# Altium schematic symbol library MS IMP Library.SchLib: 375 symbols (part 5 of 9)
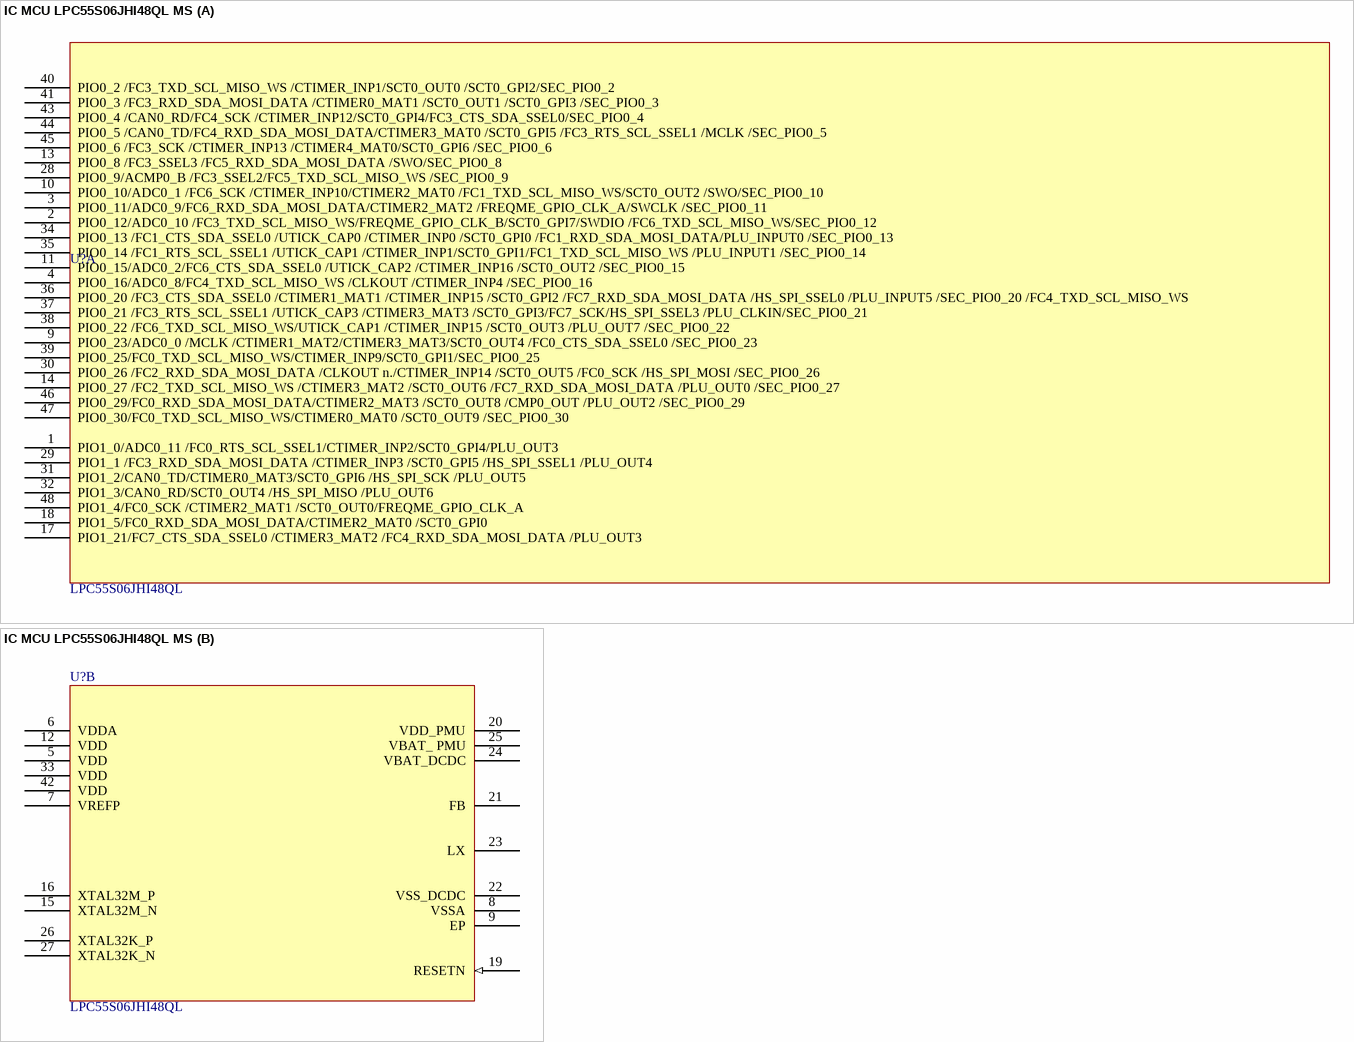
[diagram p26: symbol IC MCU LPC55S06JHI48QL MS]

## IC MCU LPC55S06JHI48QL MS
designator U?, comment LPC55S06JHI48QL
IC MCU 32BIT 256KB FLASH 48HVQFN; Manufacturer: NXP Semiconductors; Supply Voltage: 1.8V ~ 3.6V; Data RAM: 96kB; Production Status: Active; Distributor: Mouser; Distributor Part Number: 771-LPC55S06JHI48QL; Manufacturer Part Number: LPC55S06JHI48QL; Last Revision Date: 28.07.2021; Temperature Range: -40°C ~ +105°C; Mounting: SMD; Status: Not Checked; Flash size: 256kB; DB Parameter 1: LPC55S06JHI48QL; ComponentLink1Description: Datasheet; ComponentLink1URL: https://eu.mouser.com/datasheet/2/302/LPC55S0x_LPC550x_DS-1919872.pdf; ComponentLink2Description: Distributor; ComponentLink2URL: https://eu.mouser.com/ProductDetail/NXP-Semiconductors/LPC55S06JHI48QL?qs=stqOd1AaK7%252BkdZd8O8Fo7A%3D%3D; ComponentLink3Description: Manufacturer; ComponentLink3URL: https://www.nxp.com/part/LPC55S06JHI48#/
footprint HVQFN48_NXP
part A pins: 1 PIO1_0/ADC0_11 /FC0_RTS_SCL_SSEL1/CTIMER_INP2/SCT0_GPI4/PLU_OUT3 , 2 PIO0_12/ADC0_10 /FC3_TXD_SCL_MISO_WS/FREQME_GPIO_CLK_B/SCT0_GPI7/SWDIO /FC6_TXD_SCL_MISO_WS/SEC_PIO0_12 , 3 PIO0_11/ADC0_9/FC6_RXD_SDA_MOSI_DATA/CTIMER2_MAT2 /FREQME_GPIO_CLK_A/SWCLK /SEC_PIO0_11 , 4 PIO0_16/ADC0_8/FC4_TXD_SCL_MISO_WS /CLKOUT /CTIMER_INP4 /SEC_PIO0_16     , 9 PIO0_23/ADC0_0 /MCLK /CTIMER1_MAT2/CTIMER3_MAT3/SCT0_OUT4 /FC0_CTS_SDA_SSEL0 /SEC_PIO0_23, 10 PIO0_10/ADC0_1 /FC6_SCK /CTIMER_INP10/CTIMER2_MAT0 /FC1_TXD_SCL_MISO_WS/SCT0_OUT2 /SWO/SEC_PIO0_10, 11 PIO0_15/ADC0_2/FC6_CTS_SDA_SSEL0 /UTICK_CAP2 /CTIMER_INP16 /SCT0_OUT2 /SEC_PIO0_15, 13 PIO0_8 /FC3_SSEL3 /FC5_RXD_SDA_MOSI_DATA /SWO/SEC_PIO0_8 , 14 PIO0_27 /FC2_TXD_SCL_MISO_WS /CTIMER3_MAT2 /SCT0_OUT6 /FC7_RXD_SDA_MOSI_DATA /PLU_OUT0 /SEC_PIO0_27 , 17 PIO1_21/FC7_CTS_SDA_SSEL0 /CTIMER3_MAT2 /FC4_RXD_SDA_MOSI_DATA /PLU_OUT3 , 18 PIO1_5/FC0_RXD_SDA_MOSI_DATA/CTIMER2_MAT0 /SCT0_GPI0, 28 PIO0_9/ACMP0_B /FC3_SSEL2/FC5_TXD_SCL_MISO_WS /SEC_PIO0_9 , 29 PIO1_1 /FC3_RXD_SDA_MOSI_DATA /CTIMER_INP3 /SCT0_GPI5 /HS_SPI_SSEL1 /PLU_OUT4 , 30 PIO0_26 /FC2_RXD_SDA_MOSI_DATA /CLKOUT n./CTIMER_INP14 /SCT0_OUT5 /FC0_SCK /HS_SPI_MOSI /SEC_PIO0_26   , 31 PIO1_2/CAN0_TD/CTIMER0_MAT3/SCT0_GPI6 /HS_SPI_SCK /PLU_OUT5 , 32 PIO1_3/CAN0_RD/SCT0_OUT4 /HS_SPI_MISO /PLU_OUT6 , 34 PIO0_13 /FC1_CTS_SDA_SSEL0 /UTICK_CAP0 /CTIMER_INP0 /SCT0_GPI0 /FC1_RXD_SDA_MOSI_DATA/PLU_INPUT0 /SEC_PIO0_13, 35 PIO0_14 /FC1_RTS_SCL_SSEL1 /UTICK_CAP1 /CTIMER_INP1/SCT0_GPI1/FC1_TXD_SCL_MISO_WS /PLU_INPUT1 /SEC_PIO0_14 , 36 PIO0_20 /FC3_CTS_SDA_SSEL0 /CTIMER1_MAT1 /CTIMER_INP15 /SCT0_GPI2 /FC7_RXD_SDA_MOSI_DATA /HS_SPI_SSEL0 /PLU_INPUT5 /SEC_PIO0_20 /FC4_TXD_SCL_MISO_WS , 37 PIO0_21 /FC3_RTS_SCL_SSEL1 /UTICK_CAP3 /CTIMER3_MAT3 /SCT0_GPI3/FC7_SCK/HS_SPI_SSEL3 /PLU_CLKIN/SEC_PIO0_21 , 38 PIO0_22 /FC6_TXD_SCL_MISO_WS/UTICK_CAP1 /CTIMER_INP15 /SCT0_OUT3 /PLU_OUT7 /SEC_PIO0_22 , 39 PIO0_25/FC0_TXD_SCL_MISO_WS/CTIMER_INP9/SCT0_GPI1/SEC_PIO0_25, 40 PIO0_2 /FC3_TXD_SCL_MISO_WS /CTIMER_INP1/SCT0_OUT0 /SCT0_GPI2/SEC_PIO0_2 , 41 PIO0_3 /FC3_RXD_SDA_MOSI_DATA /CTIMER0_MAT1 /SCT0_OUT1 /SCT0_GPI3 /SEC_PIO0_3 , 43 PIO0_4 /CAN0_RD/FC4_SCK /CTIMER_INP12/SCT0_GPI4/FC3_CTS_SDA_SSEL0/SEC_PIO0_4 , 44 PIO0_5 /CAN0_TD/FC4_RXD_SDA_MOSI_DATA/CTIMER3_MAT0 /SCT0_GPI5 /FC3_RTS_SCL_SSEL1 /MCLK /SEC_PIO0_5, 45 PIO0_6 /FC3_SCK /CTIMER_INP13 /CTIMER4_MAT0/SCT0_GPI6 /SEC_PIO0_6 , 46 PIO0_29/FC0_RXD_SDA_MOSI_DATA/CTIMER2_MAT3 /SCT0_OUT8 /CMP0_OUT /PLU_OUT2 /SEC_PIO0_29 , 47 PIO0_30/FC0_TXD_SCL_MISO_WS/CTIMER0_MAT0 /SCT0_OUT9 /SEC_PIO0_30 , 48 PIO1_4/FC0_SCK /CTIMER2_MAT1 /SCT0_OUT0/FREQME_GPIO_CLK_A 
part B pins: 5 VDD (power), 6 VDDA (power), 7 VREFP (power), 8 VSSA (power), 9 EP (power), 12 VDD (power), 15 XTAL32M_N, 16 XTAL32M_P, 19 RESETN (in), 20 VDD_PMU (power), 21 FB (power), 22 VSS_DCDC (power), 23 LX (power), 24 VBAT_DCDC (power), 25 VBAT_ PMU (power), 26 XTAL32K_P, 27 XTAL32K_N, 33 VDD (power), 42 VDD (power)

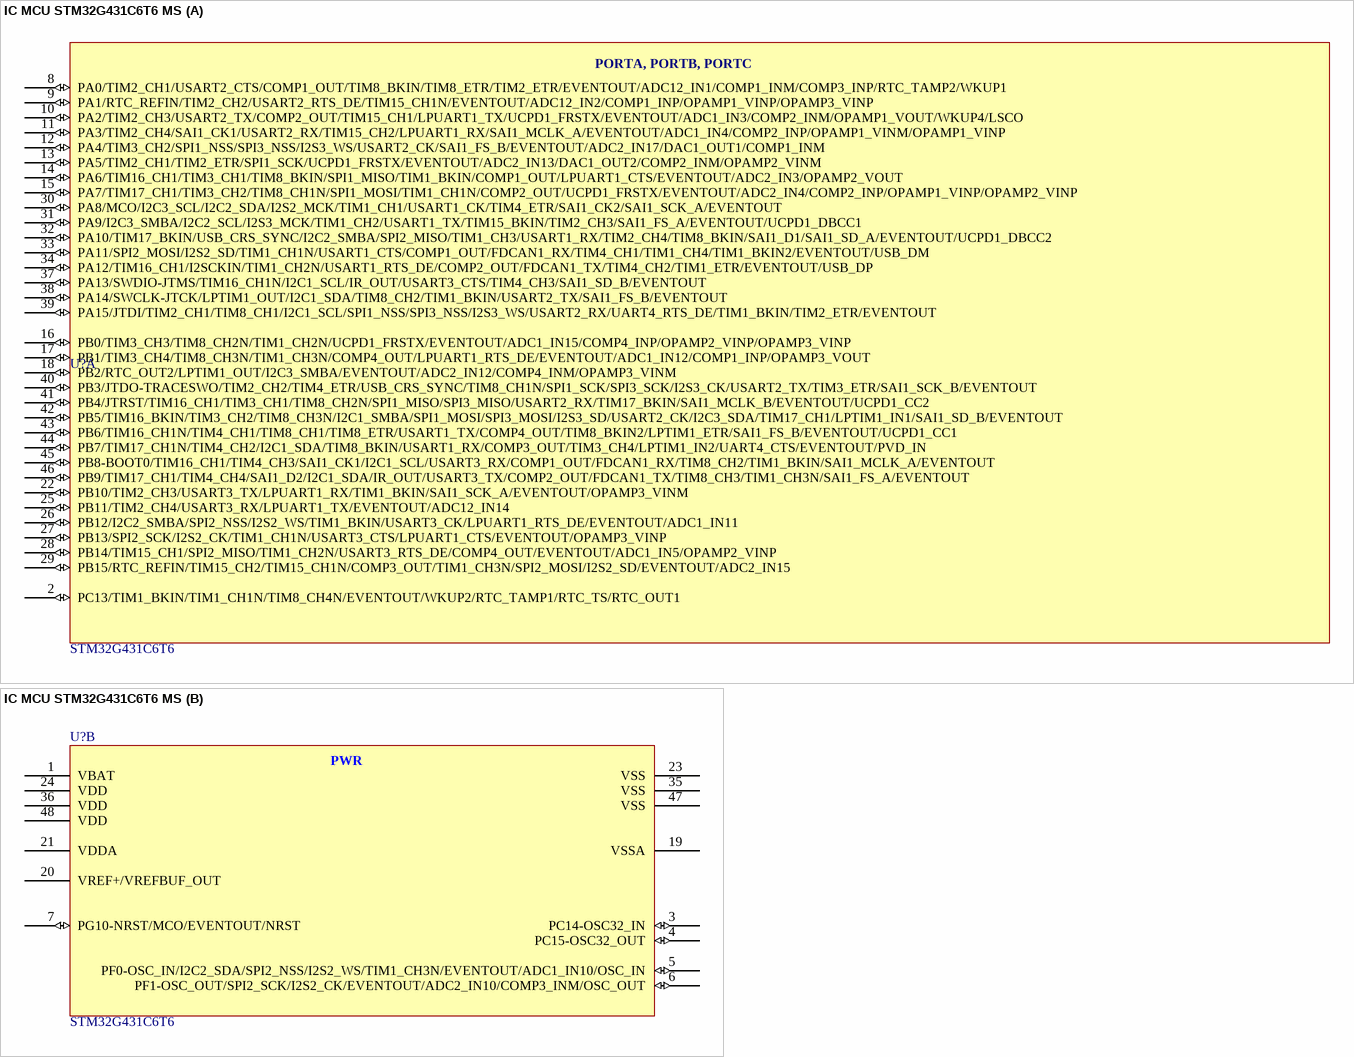
[diagram p12: symbol IC MCU STM32G431C6T6 MS]

## IC MCU STM32G431C6T6 MS
designator U?, comment STM32G431C6T6
IC MCU 32BIT 32KB FLASH 48LQFP; Manufacturer: STMicroelectronics; Supply Voltage: 1.71V ~ 3.6V; Production Status: Active; Distributor: Mouser; Distributor Part Number: 511-STM32G431C6T6; Manufacturer Part Number: STM32G431C6T6; Last Revision Date: 21.07.2021; Temperature Range: -40°C ~ +85°C; Mounting: SMD; Status: Not Checked; Flash size: 32kB; Data RAM: 32kB; DB Parameter 1: STM32G431C6T6; ComponentLink1Description: Datasheet; ComponentLink1URL: https://www.st.com/resource/en/datasheet/stm32g431c6.pdf; ComponentLink2Description: Distributor; ComponentLink2URL: https://eu.mouser.com/ProductDetail/STMicroelectronics/STM32G431C6T6?qs=uwxL4vQweFMIHkXLHKxSFQ%3D%3D; ComponentLink3Description: Manufacturer; ComponentLink3URL: https://www.st.com/en/microcontrollers-microprocessors/stm32g431c6.html
footprint LQFP48-7x7mm MS
part A pins: 2 PC13/TIM1_BKIN/TIM1_CH1N/TIM8_CH4N/EVENTOUT/WKUP2/RTC_TAMP1/RTC_TS/RTC_OUT1   (io), 8 PA0/TIM2_CH1/USART2_CTS/COMP1_OUT/TIM8_BKIN/TIM8_ETR/TIM2_ETR/EVENTOUT/ADC12_IN1/COMP1_INM/COMP3_INP/RTC_TAMP2/WKUP1   (io), 9 PA1/RTC_REFIN/TIM2_CH2/USART2_RTS_DE/TIM15_CH1N/EVENTOUT/ADC12_IN2/COMP1_INP/OPAMP1_VINP/OPAMP3_VINP   (io), 10 PA2/TIM2_CH3/USART2_TX/COMP2_OUT/TIM15_CH1/LPUART1_TX/UCPD1_FRSTX/EVENTOUT/ADC1_IN3/COMP2_INM/OPAMP1_VOUT/WKUP4/LSCO   (io), 11 PA3/TIM2_CH4/SAI1_CK1/USART2_RX/TIM15_CH2/LPUART1_RX/SAI1_MCLK_A/EVENTOUT/ADC1_IN4/COMP2_INP/OPAMP1_VINM/OPAMP1_VINP  (io), 12 PA4/TIM3_CH2/SPI1_NSS/SPI3_NSS/I2S3_WS/USART2_CK/SAI1_FS_B/EVENTOUT/ADC2_IN17/DAC1_OUT1/COMP1_INM   (io), 13 PA5/TIM2_CH1/TIM2_ETR/SPI1_SCK/UCPD1_FRSTX/EVENTOUT/ADC2_IN13/DAC1_OUT2/COMP2_INM/OPAMP2_VINM   (io), 14 PA6/TIM16_CH1/TIM3_CH1/TIM8_BKIN/SPI1_MISO/TIM1_BKIN/COMP1_OUT/LPUART1_CTS/EVENTOUT/ADC2_IN3/OPAMP2_VOUT   (io), 15 PA7/TIM17_CH1/TIM3_CH2/TIM8_CH1N/SPI1_MOSI/TIM1_CH1N/COMP2_OUT/UCPD1_FRSTX/EVENTOUT/ADC2_IN4/COMP2_INP/OPAMP1_VINP/OPAMP2_VINP   (io), 16 PB0/TIM3_CH3/TIM8_CH2N/TIM1_CH2N/UCPD1_FRSTX/EVENTOUT/ADC1_IN15/COMP4_INP/OPAMP2_VINP/OPAMP3_VINP   (io), 17 PB1/TIM3_CH4/TIM8_CH3N/TIM1_CH3N/COMP4_OUT/LPUART1_RTS_DE/EVENTOUT/ADC1_IN12/COMP1_INP/OPAMP3_VOUT (io), 18 PB2/RTC_OUT2/LPTIM1_OUT/I2C3_SMBA/EVENTOUT/ADC2_IN12/COMP4_INM/OPAMP3_VINM   (io), 22 PB10/TIM2_CH3/USART3_TX/LPUART1_RX/TIM1_BKIN/SAI1_SCK_A/EVENTOUT/OPAMP3_VINM (io), 25 PB11/TIM2_CH4/USART3_RX/LPUART1_TX/EVENTOUT/ADC12_IN14 (io), 26 PB12/I2C2_SMBA/SPI2_NSS/I2S2_WS/TIM1_BKIN/USART3_CK/LPUART1_RTS_DE/EVENTOUT/ADC1_IN11 (io), 27 PB13/SPI2_SCK/I2S2_CK/TIM1_CH1N/USART3_CTS/LPUART1_CTS/EVENTOUT/OPAMP3_VINP (io), 28 PB14/TIM15_CH1/SPI2_MISO/TIM1_CH2N/USART3_RTS_DE/COMP4_OUT/EVENTOUT/ADC1_IN5/OPAMP2_VINP (io), 29 PB15/RTC_REFIN/TIM15_CH2/TIM15_CH1N/COMP3_OUT/TIM1_CH3N/SPI2_MOSI/I2S2_SD/EVENTOUT/ADC2_IN15 (io), 30 PA8/MCO/I2C3_SCL/I2C2_SDA/I2S2_MCK/TIM1_CH1/USART1_CK/TIM4_ETR/SAI1_CK2/SAI1_SCK_A/EVENTOUT (io), 31 PA9/I2C3_SMBA/I2C2_SCL/I2S3_MCK/TIM1_CH2/USART1_TX/TIM15_BKIN/TIM2_CH3/SAI1_FS_A/EVENTOUT/UCPD1_DBCC1   (io), 32 PA10/TIM17_BKIN/USB_CRS_SYNC/I2C2_SMBA/SPI2_MISO/TIM1_CH3/USART1_RX/TIM2_CH4/TIM8_BKIN/SAI1_D1/SAI1_SD_A/EVENTOUT/UCPD1_DBCC2   (io), 33 PA11/SPI2_MOSI/I2S2_SD/TIM1_CH1N/USART1_CTS/COMP1_OUT/FDCAN1_RX/TIM4_CH1/TIM1_CH4/TIM1_BKIN2/EVENTOUT/USB_DM   (io), 34 PA12/TIM16_CH1/I2SCKIN/TIM1_CH2N/USART1_RTS_DE/COMP2_OUT/FDCAN1_TX/TIM4_CH2/TIM1_ETR/EVENTOUT/USB_DP   (io), 37 PA13/SWDIO-JTMS/TIM16_CH1N/I2C1_SCL/IR_OUT/USART3_CTS/TIM4_CH3/SAI1_SD_B/EVENTOUT   (io), 38 PA14/SWCLK-JTCK/LPTIM1_OUT/I2C1_SDA/TIM8_CH2/TIM1_BKIN/USART2_TX/SAI1_FS_B/EVENTOUT   (io), 39 PA15/JTDI/TIM2_CH1/TIM8_CH1/I2C1_SCL/SPI1_NSS/SPI3_NSS/I2S3_WS/USART2_RX/UART4_RTS_DE/TIM1_BKIN/TIM2_ETR/EVENTOUT   (io), 40 PB3/JTDO-TRACESWO/TIM2_CH2/TIM4_ETR/USB_CRS_SYNC/TIM8_CH1N/SPI1_SCK/SPI3_SCK/I2S3_CK/USART2_TX/TIM3_ETR/SAI1_SCK_B/EVENTOUT   (io), 41 PB4/JTRST/TIM16_CH1/TIM3_CH1/TIM8_CH2N/SPI1_MISO/SPI3_MISO/USART2_RX/TIM17_BKIN/SAI1_MCLK_B/EVENTOUT/UCPD1_CC2   (io), 42 PB5/TIM16_BKIN/TIM3_CH2/TIM8_CH3N/I2C1_SMBA/SPI1_MOSI/SPI3_MOSI/I2S3_SD/USART2_CK/I2C3_SDA/TIM17_CH1/LPTIM1_IN1/SAI1_SD_B/EVENTOUT   (io), 43 PB6/TIM16_CH1N/TIM4_CH1/TIM8_CH1/TIM8_ETR/USART1_TX/COMP4_OUT/TIM8_BKIN2/LPTIM1_ETR/SAI1_FS_B/EVENTOUT/UCPD1_CC1   (io), 44 PB7/TIM17_CH1N/TIM4_CH2/I2C1_SDA/TIM8_BKIN/USART1_RX/COMP3_OUT/TIM3_CH4/LPTIM1_IN2/UART4_CTS/EVENTOUT/PVD_IN   (io), 45 PB8-BOOT0/TIM16_CH1/TIM4_CH3/SAI1_CK1/I2C1_SCL/USART3_RX/COMP1_OUT/FDCAN1_RX/TIM8_CH2/TIM1_BKIN/SAI1_MCLK_A/EVENTOUT   (io), 46 PB9/TIM17_CH1/TIM4_CH4/SAI1_D2/I2C1_SDA/IR_OUT/USART3_TX/COMP2_OUT/FDCAN1_TX/TIM8_CH3/TIM1_CH3N/SAI1_FS_A/EVENTOUT   (io)
part B pins: 1 VBAT (power), 3 PC14-OSC32_IN (io), 4 PC15-OSC32_OUT (io), 5 PF0-OSC_IN/I2C2_SDA/SPI2_NSS/I2S2_WS/TIM1_CH3N/EVENTOUT/ADC1_IN10/OSC_IN (io), 6 PF1-OSC_OUT/SPI2_SCK/I2S2_CK/EVENTOUT/ADC2_IN10/COMP3_INM/OSC_OUT (io), 7 PG10-NRST/MCO/EVENTOUT/NRST   (io), 19 VSSA (power), 20 VREF+/VREFBUF_OUT (power), 21 VDDA (power), 23 VSS (power), 24 VDD (power), 35 VSS (power), 36 VDD (power), 47 VSS (power), 48 VDD (power)
part A text: PORTA, PORTB, PORTC
part B text: PWR

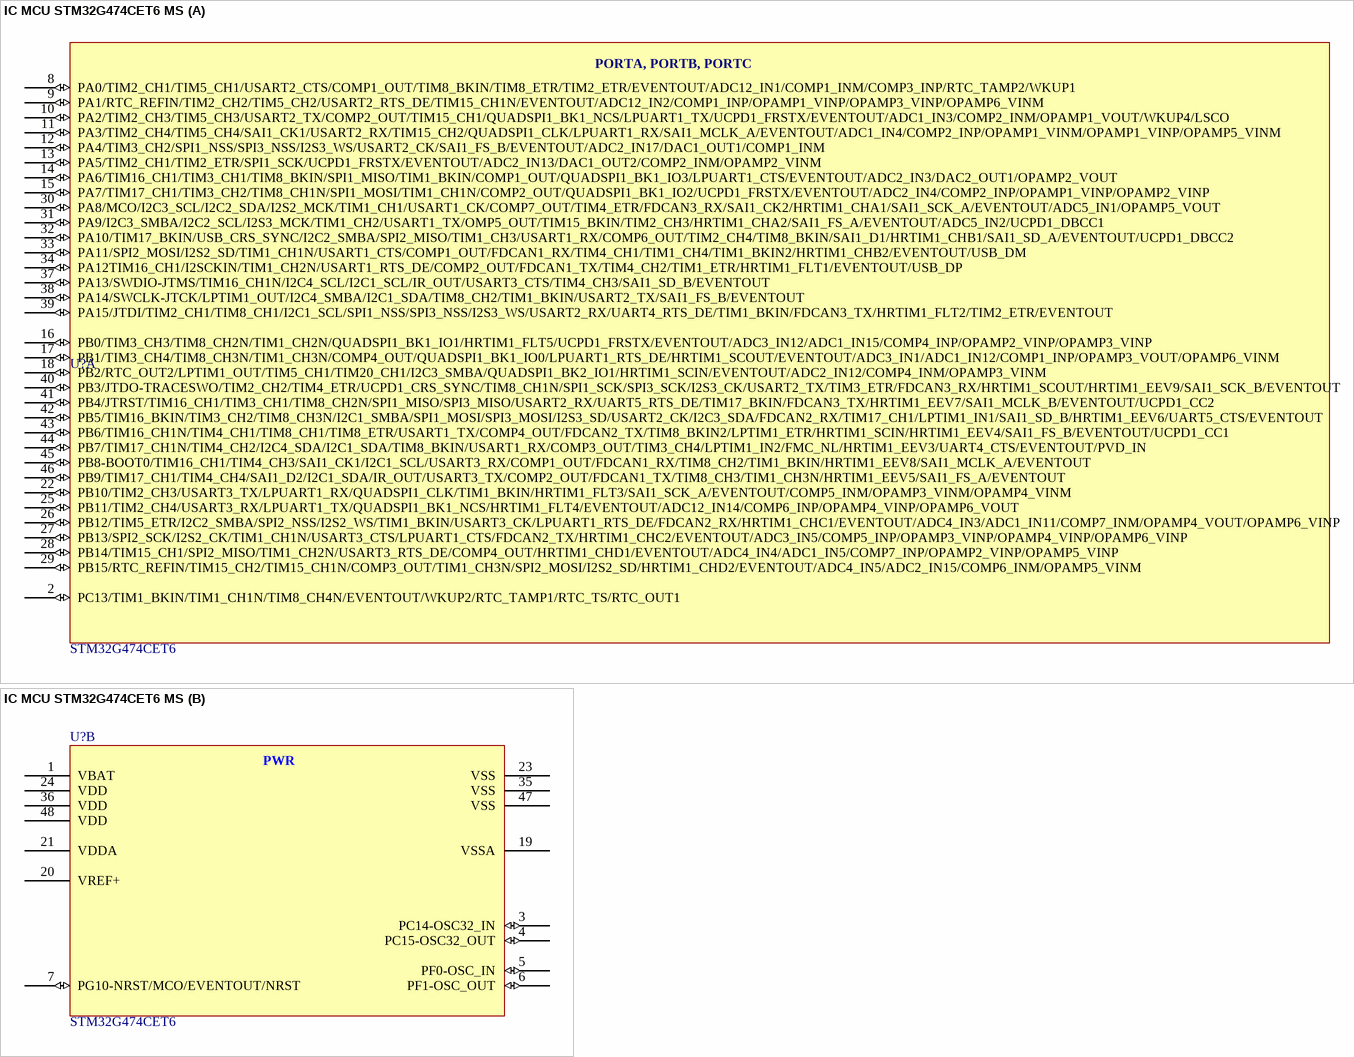
[diagram p13: symbol IC MCU STM32G474CET6 MS]

## IC MCU STM32G474CET6 MS
designator U?, comment STM32G474CET6
IC MCU 32BIT 512KB FLASH 48LQFP; Manufacturer: STMicroelectronics; Supply Voltage: 1.71V ~ 3.6V; Data RAM: 96kB; Production Status: Active; Distributor: Digi-Key; Distributor Part Number: 497-STM32G474CET6-ND; Manufacturer Part Number: STM32G474CET6; Last Revision Date: 05.06.2021; Temperature Range: -40°C ~ +85°C; Mounting: SMD; Status: Not Checked; Flash size: 512kB; DB Parameter 1: STM32G474CET6; ComponentLink1Description: Datasheet; ComponentLink1URL: https://www.st.com/resource/en/datasheet/stm32g474cb.pdf; ComponentLink2Description: Distributor; ComponentLink2URL: https://www.digikey.com/en/products/detail/stmicroelectronics/STM32G474CET6/10326773; ComponentLink3Description: Manufacturer; ComponentLink3URL: https://www.st.com/en/microcontrollers-microprocessors/stm32g474ce.html
footprint LQFP48-7x7mm MS
part A pins: 2 PC13/TIM1_BKIN/TIM1_CH1N/TIM8_CH4N/EVENTOUT/WKUP2/RTC_TAMP1/RTC_TS/RTC_OUT1   (io), 8 PA0/TIM2_CH1/TIM5_CH1/USART2_CTS/COMP1_OUT/TIM8_BKIN/TIM8_ETR/TIM2_ETR/EVENTOUT/ADC12_IN1/COMP1_INM/COMP3_INP/RTC_TAMP2/WKUP1   (io), 9 PA1/RTC_REFIN/TIM2_CH2/TIM5_CH2/USART2_RTS_DE/TIM15_CH1N/EVENTOUT/ADC12_IN2/COMP1_INP/OPAMP1_VINP/OPAMP3_VINP/OPAMP6_VINM   (io), 10 PA2/TIM2_CH3/TIM5_CH3/USART2_TX/COMP2_OUT/TIM15_CH1/QUADSPI1_BK1_NCS/LPUART1_TX/UCPD1_FRSTX/EVENTOUT/ADC1_IN3/COMP2_INM/OPAMP1_VOUT/WKUP4/LSCO   (io), 11 PA3/TIM2_CH4/TIM5_CH4/SAI1_CK1/USART2_RX/TIM15_CH2/QUADSPI1_CLK/LPUART1_RX/SAI1_MCLK_A/EVENTOUT/ADC1_IN4/COMP2_INP/OPAMP1_VINM/OPAMP1_VINP/OPAMP5_VINM   (io), 12 PA4/TIM3_CH2/SPI1_NSS/SPI3_NSS/I2S3_WS/USART2_CK/SAI1_FS_B/EVENTOUT/ADC2_IN17/DAC1_OUT1/COMP1_INM   (io), 13 PA5/TIM2_CH1/TIM2_ETR/SPI1_SCK/UCPD1_FRSTX/EVENTOUT/ADC2_IN13/DAC1_OUT2/COMP2_INM/OPAMP2_VINM   (io), 14 PA6/TIM16_CH1/TIM3_CH1/TIM8_BKIN/SPI1_MISO/TIM1_BKIN/COMP1_OUT/QUADSPI1_BK1_IO3/LPUART1_CTS/EVENTOUT/ADC2_IN3/DAC2_OUT1/OPAMP2_VOUT   (io), 15 PA7/TIM17_CH1/TIM3_CH2/TIM8_CH1N/SPI1_MOSI/TIM1_CH1N/COMP2_OUT/QUADSPI1_BK1_IO2/UCPD1_FRSTX/EVENTOUT/ADC2_IN4/COMP2_INP/OPAMP1_VINP/OPAMP2_VINP   (io), 16 PB0/TIM3_CH3/TIM8_CH2N/TIM1_CH2N/QUADSPI1_BK1_IO1/HRTIM1_FLT5/UCPD1_FRSTX/EVENTOUT/ADC3_IN12/ADC1_IN15/COMP4_INP/OPAMP2_VINP/OPAMP3_VINP   (io), 17 PB1/TIM3_CH4/TIM8_CH3N/TIM1_CH3N/COMP4_OUT/QUADSPI1_BK1_IO0/LPUART1_RTS_DE/HRTIM1_SCOUT/EVENTOUT/ADC3_IN1/ADC1_IN12/COMP1_INP/OPAMP3_VOUT/OPAMP6_VINM   (io), 18 PB2/RTC_OUT2/LPTIM1_OUT/TIM5_CH1/TIM20_CH1/I2C3_SMBA/QUADSPI1_BK2_IO1/HRTIM1_SCIN/EVENTOUT/ADC2_IN12/COMP4_INM/OPAMP3_VINM   (io), 22 PB10/TIM2_CH3/USART3_TX/LPUART1_RX/QUADSPI1_CLK/TIM1_BKIN/HRTIM1_FLT3/SAI1_SCK_A/EVENTOUT/COMP5_INM/OPAMP3_VINM/OPAMP4_VINM   (io), 25 PB11/TIM2_CH4/USART3_RX/LPUART1_TX/QUADSPI1_BK1_NCS/HRTIM1_FLT4/EVENTOUT/ADC12_IN14/COMP6_INP/OPAMP4_VINP/OPAMP6_VOUT   (io), 26 PB12/TIM5_ETR/I2C2_SMBA/SPI2_NSS/I2S2_WS/TIM1_BKIN/USART3_CK/LPUART1_RTS_DE/FDCAN2_RX/HRTIM1_CHC1/EVENTOUT/ADC4_IN3/ADC1_IN11/COMP7_INM/OPAMP4_VOUT/OPAMP6_VINP   (io), 27 PB13/SPI2_SCK/I2S2_CK/TIM1_CH1N/USART3_CTS/LPUART1_CTS/FDCAN2_TX/HRTIM1_CHC2/EVENTOUT/ADC3_IN5/COMP5_INP/OPAMP3_VINP/OPAMP4_VINP/OPAMP6_VINP   (io), 28 PB14/TIM15_CH1/SPI2_MISO/TIM1_CH2N/USART3_RTS_DE/COMP4_OUT/HRTIM1_CHD1/EVENTOUT/ADC4_IN4/ADC1_IN5/COMP7_INP/OPAMP2_VINP/OPAMP5_VINP   (io), 29 PB15/RTC_REFIN/TIM15_CH2/TIM15_CH1N/COMP3_OUT/TIM1_CH3N/SPI2_MOSI/I2S2_SD/HRTIM1_CHD2/EVENTOUT/ADC4_IN5/ADC2_IN15/COMP6_INM/OPAMP5_VINM   (io), 30 PA8/MCO/I2C3_SCL/I2C2_SDA/I2S2_MCK/TIM1_CH1/USART1_CK/COMP7_OUT/TIM4_ETR/FDCAN3_RX/SAI1_CK2/HRTIM1_CHA1/SAI1_SCK_A/EVENTOUT/ADC5_IN1/OPAMP5_VOUT   (io), 31 PA9/I2C3_SMBA/I2C2_SCL/I2S3_MCK/TIM1_CH2/USART1_TX/OMP5_OUT/TIM15_BKIN/TIM2_CH3/HRTIM1_CHA2/SAI1_FS_A/EVENTOUT/ADC5_IN2/UCPD1_DBCC1   (io), 32 PA10/TIM17_BKIN/USB_CRS_SYNC/I2C2_SMBA/SPI2_MISO/TIM1_CH3/USART1_RX/COMP6_OUT/TIM2_CH4/TIM8_BKIN/SAI1_D1/HRTIM1_CHB1/SAI1_SD_A/EVENTOUT/UCPD1_DBCC2   (io), 33 PA11/SPI2_MOSI/I2S2_SD/TIM1_CH1N/USART1_CTS/COMP1_OUT/FDCAN1_RX/TIM4_CH1/TIM1_CH4/TIM1_BKIN2/HRTIM1_CHB2/EVENTOUT/USB_DM   (io), 34 PA12TIM16_CH1/I2SCKIN/TIM1_CH2N/USART1_RTS_DE/COMP2_OUT/FDCAN1_TX/TIM4_CH2/TIM1_ETR/HRTIM1_FLT1/EVENTOUT/USB_DP   (io), 37 PA13/SWDIO-JTMS/TIM16_CH1N/I2C4_SCL/I2C1_SCL/IR_OUT/USART3_CTS/TIM4_CH3/SAI1_SD_B/EVENTOUT   (io), 38 PA14/SWCLK-JTCK/LPTIM1_OUT/I2C4_SMBA/I2C1_SDA/TIM8_CH2/TIM1_BKIN/USART2_TX/SAI1_FS_B/EVENTOUT   (io), 39 PA15/JTDI/TIM2_CH1/TIM8_CH1/I2C1_SCL/SPI1_NSS/SPI3_NSS/I2S3_WS/USART2_RX/UART4_RTS_DE/TIM1_BKIN/FDCAN3_TX/HRTIM1_FLT2/TIM2_ETR/EVENTOUT   (io), 40 PB3/JTDO-TRACESWO/TIM2_CH2/TIM4_ETR/UCPD1_CRS_SYNC/TIM8_CH1N/SPI1_SCK/SPI3_SCK/I2S3_CK/USART2_TX/TIM3_ETR/FDCAN3_RX/HRTIM1_SCOUT/HRTIM1_EEV9/SAI1_SCK_B/EVENTOUT   (io), 41 PB4/JTRST/TIM16_CH1/TIM3_CH1/TIM8_CH2N/SPI1_MISO/SPI3_MISO/USART2_RX/UART5_RTS_DE/TIM17_BKIN/FDCAN3_TX/HRTIM1_EEV7/SAI1_MCLK_B/EVENTOUT/UCPD1_CC2   (io), 42 PB5/TIM16_BKIN/TIM3_CH2/TIM8_CH3N/I2C1_SMBA/SPI1_MOSI/SPI3_MOSI/I2S3_SD/USART2_CK/I2C3_SDA/FDCAN2_RX/TIM17_CH1/LPTIM1_IN1/SAI1_SD_B/HRTIM1_EEV6/UART5_CTS/EVENTOUT   (io), 43 PB6/TIM16_CH1N/TIM4_CH1/TIM8_CH1/TIM8_ETR/USART1_TX/COMP4_OUT/FDCAN2_TX/TIM8_BKIN2/LPTIM1_ETR/HRTIM1_SCIN/HRTIM1_EEV4/SAI1_FS_B/EVENTOUT/UCPD1_CC1   (io), 44 PB7/TIM17_CH1N/TIM4_CH2/I2C4_SDA/I2C1_SDA/TIM8_BKIN/USART1_RX/COMP3_OUT/TIM3_CH4/LPTIM1_IN2/FMC_NL/HRTIM1_EEV3/UART4_CTS/EVENTOUT/PVD_IN   (io), 45 PB8-BOOT0/TIM16_CH1/TIM4_CH3/SAI1_CK1/I2C1_SCL/USART3_RX/COMP1_OUT/FDCAN1_RX/TIM8_CH2/TIM1_BKIN/HRTIM1_EEV8/SAI1_MCLK_A/EVENTOUT   (io), 46 PB9/TIM17_CH1/TIM4_CH4/SAI1_D2/I2C1_SDA/IR_OUT/USART3_TX/COMP2_OUT/FDCAN1_TX/TIM8_CH3/TIM1_CH3N/HRTIM1_EEV5/SAI1_FS_A/EVENTOUT   (io)
part B pins: 1 VBAT (power), 3 PC14-OSC32_IN (io), 4 PC15-OSC32_OUT (io), 5 PF0-OSC_IN (io), 6 PF1-OSC_OUT (io), 7 PG10-NRST/MCO/EVENTOUT/NRST   (io), 19 VSSA (power), 20 VREF+ (power), 21 VDDA (power), 23 VSS (power), 24 VDD (power), 35 VSS (power), 36 VDD (power), 47 VSS (power), 48 VDD (power)
part A text: PORTA, PORTB, PORTC
part B text: PWR

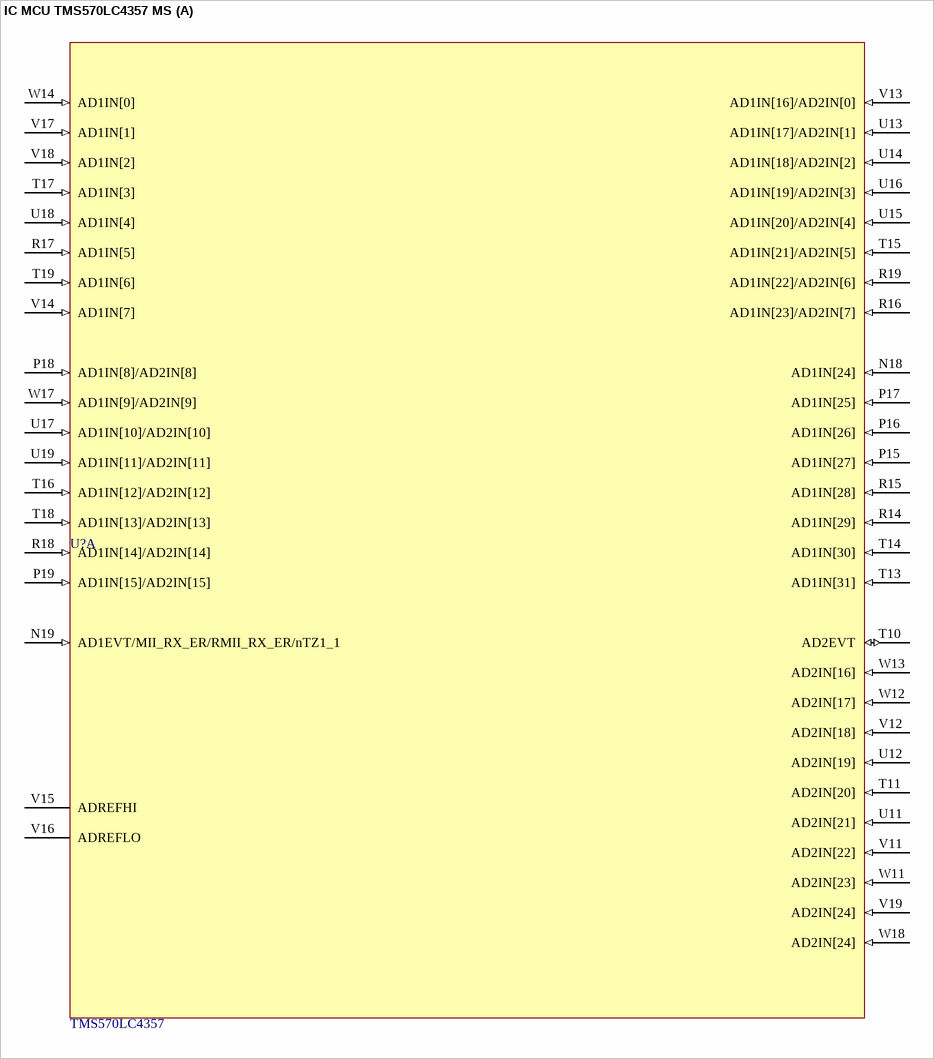
[diagram p14: symbol IC MCU TMS570LC4357 MS]

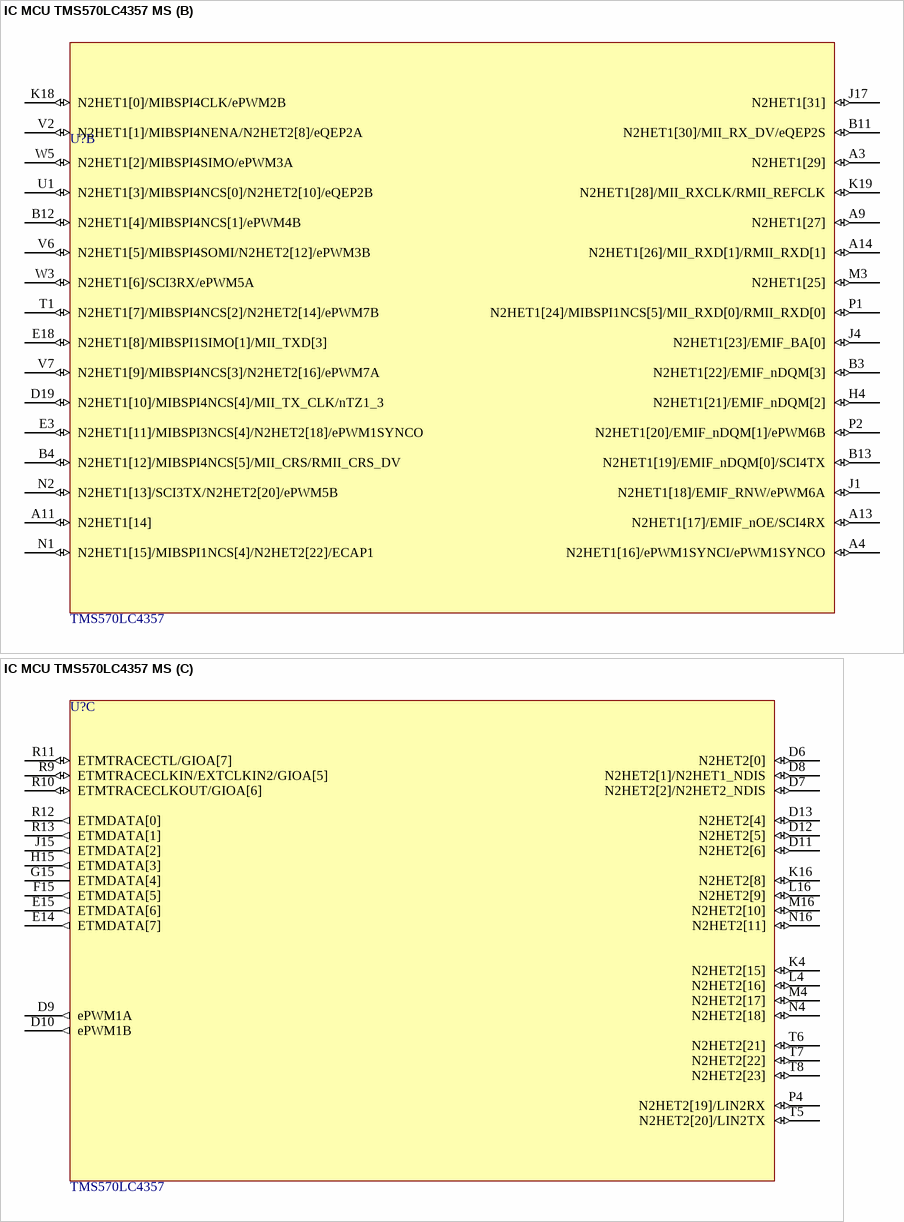
[diagram p15: symbol IC MCU TMS570LC4357 MS]

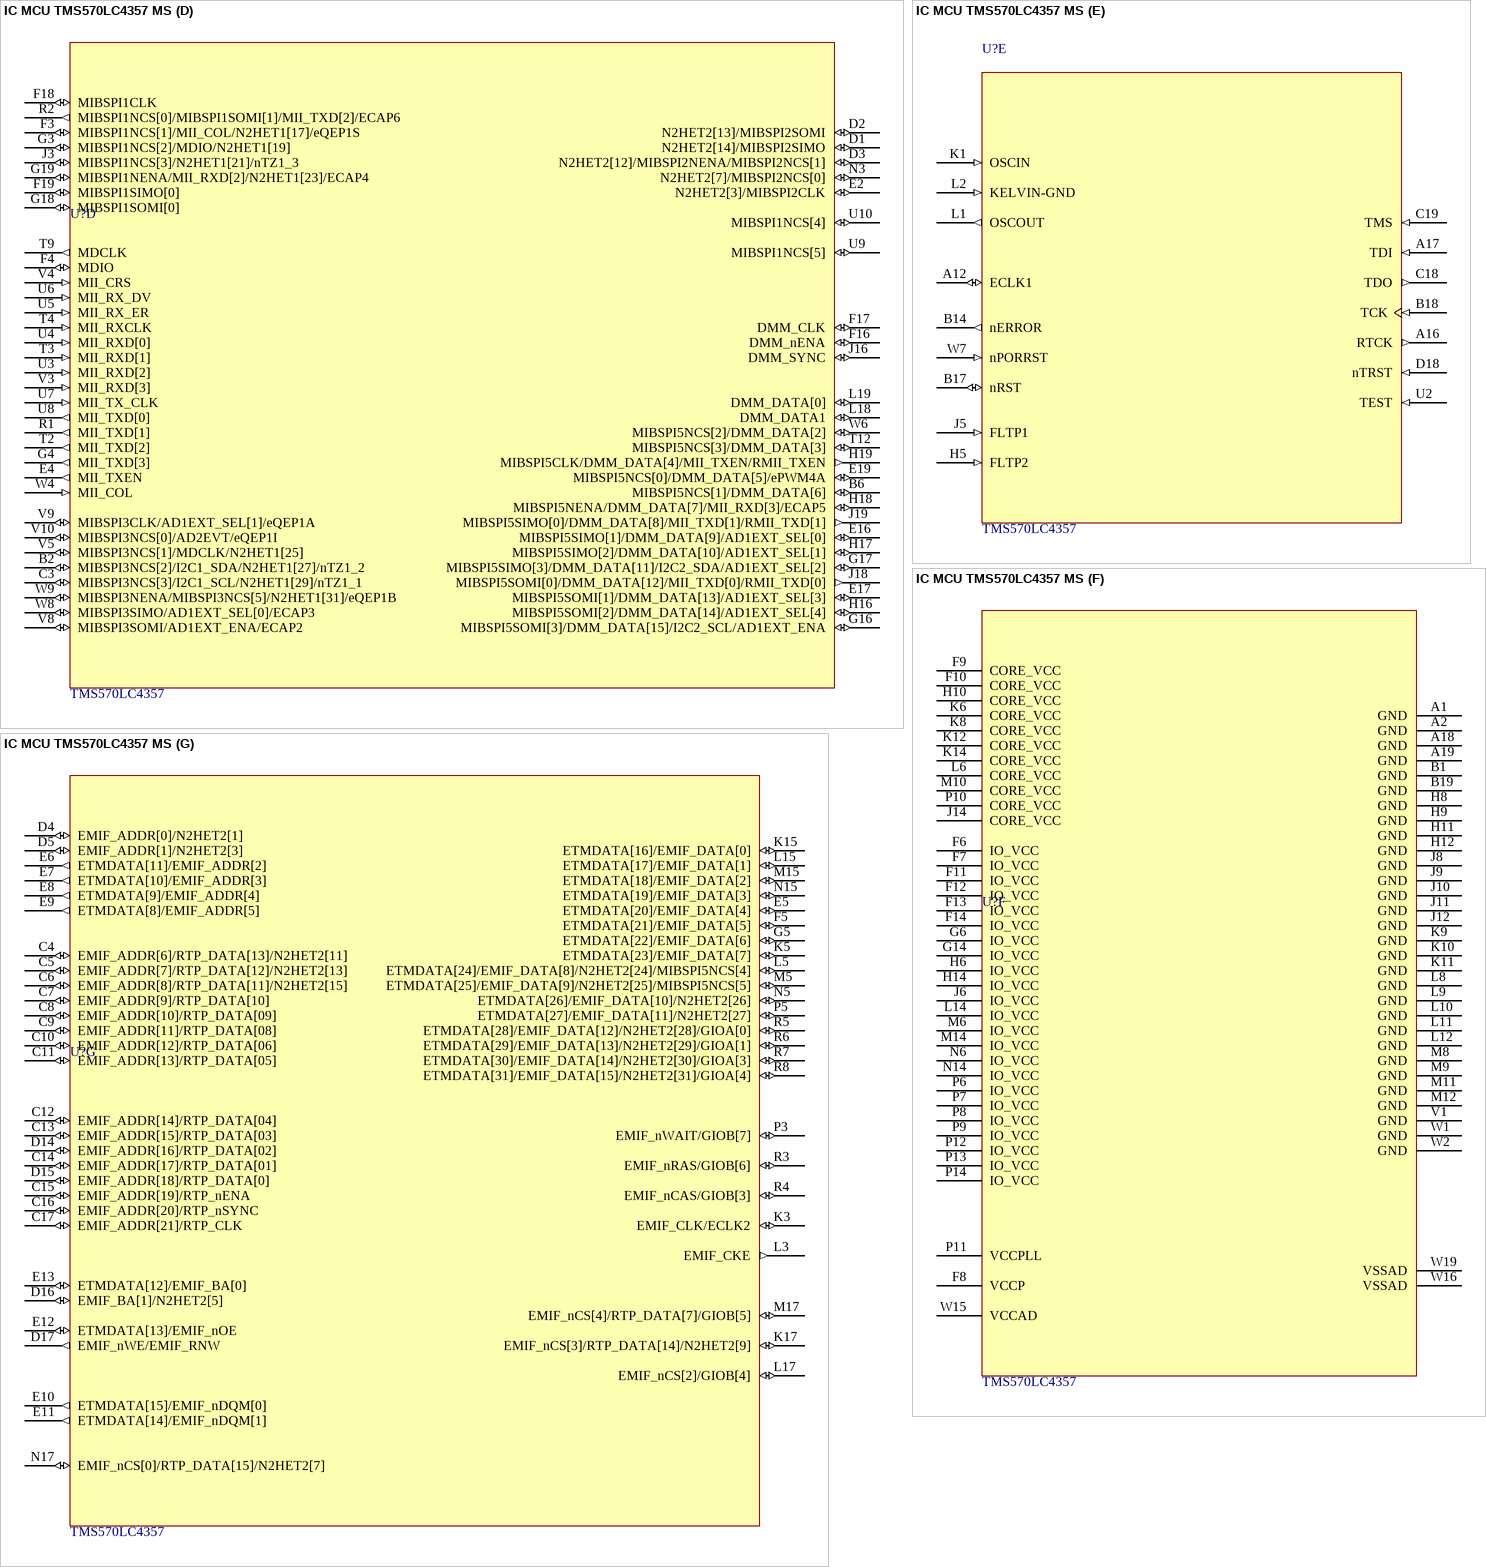
[diagram p16: symbol IC MCU TMS570LC4357 MS]

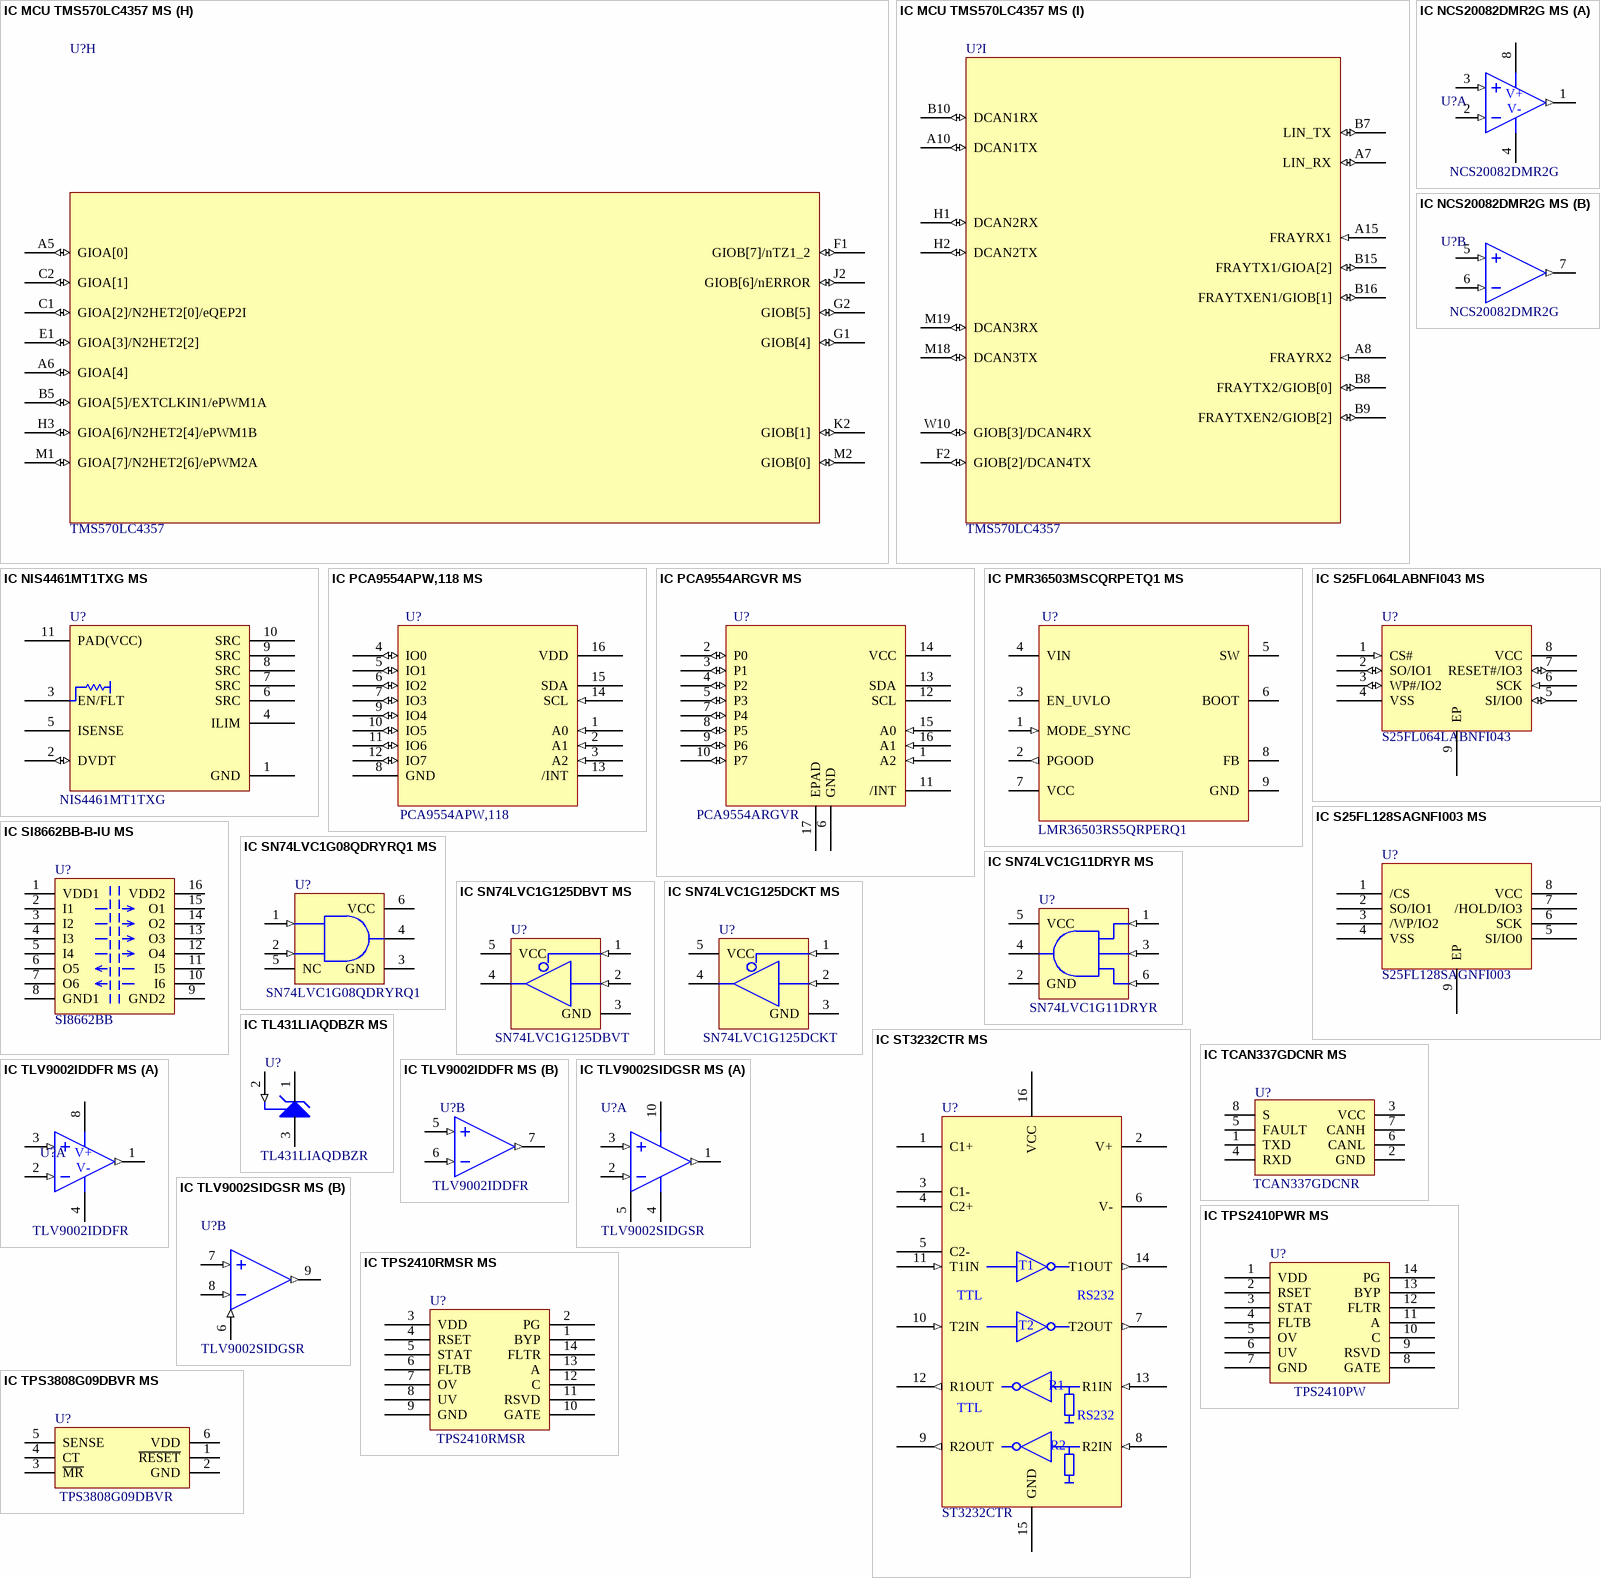
[diagram p17: symbols IC MCU TMS570LC4357 MS to IC TPS3808G09DBVR MS]

## IC MCU TMS570LC4357 MS
designator U?, comment TMS570LC4357
ARM Microcontrollers - MCU Hercules TMS570LC43x; Manufacturer: Texas Instruments; Manufacturer Part Number: TMS5704357BZWTQQ1; Supply Voltage: 1.14V ~ 1.32V; Flash size: 4MB; Data RAM: 512kB; Production Status: Active; Distributor: Mouser; Distributor Part Number: 595-MS5704357BZWTQQ1; Last Revision Date: 25.05.2021; Temperature Range: -40°C ~ +125°C; Mounting: SMD; Status: Not Checked; DB Parameter 1: TMS5704357BZWTQQ1; ComponentLink1Description: Datasheet; ComponentLink1URL: https://www.ti.com/lit/ds/symlink/tms570lc4357.pdf?ts=1621939671084&ref_url=https%253A%252F%252Fwww.ti.com%252Fproduct%252FTMS570LC4357; ComponentLink2Description: Distributor; ComponentLink2URL: https://eu.mouser.com/ProductDetail/Texas-Instruments/TMS5704357BZWTQQ1?qs=SMCV84mnLhmfmOUPj1NNfA%3D%3D; ComponentLink3Description: Manufacturer; ComponentLink3URL: https://www.ti.com/product/TMS570LC4357?keyMatch=TMS570LC4357&tisearch=search-everything&usecase=GPN
footprint BGA337C80P19X19_1600X1600X140
part A pins: N18 AD1IN[24] (in), N19 AD1EVT/MII_RX_ER/RMII_RX_ER/nTZ1_1 (in), P15 AD1IN[27] (in), P16 AD1IN[26] (in), P17 AD1IN[25] (in), P18 AD1IN[8]/AD2IN[8] (in), P19 AD1IN[15]/AD2IN[15] (in), R14 AD1IN[29] (in), R15 AD1IN[28] (in), R16 AD1IN[23]/AD2IN[7] (in), R17 AD1IN[5] (in), R18 AD1IN[14]/AD2IN[14] (in), R19 AD1IN[22]/AD2IN[6] (in), T10 AD2EVT (io), T11 AD2IN[20] (in), T13 AD1IN[31] (in), T14 AD1IN[30] (in), T15 AD1IN[21]/AD2IN[5] (in), T16 AD1IN[12]/AD2IN[12] (in), T17 AD1IN[3] (in), T18 AD1IN[13]/AD2IN[13] (in), T19 AD1IN[6] (in), U11 AD2IN[21] (in), U12 AD2IN[19] (in), U13 AD1IN[17]/AD2IN[1] (in), U14 AD1IN[18]/AD2IN[2] (in), U15 AD1IN[20]/AD2IN[4] (in), U16 AD1IN[19]/AD2IN[3] (in), U17 AD1IN[10]/AD2IN[10] (in), U18 AD1IN[4] (in), U19 AD1IN[11]/AD2IN[11] (in), V11 AD2IN[22] (in), V12 AD2IN[18] (in), V13 AD1IN[16]/AD2IN[0] (in), V14 AD1IN[7] (in), V15 ADREFHI, V16 ADREFLO, V17 AD1IN[1] (in), V18 AD1IN[2] (in), V19 AD2IN[24] (in), W11 AD2IN[23] (in), W12 AD2IN[17] (in), W13 AD2IN[16] (in), W14 AD1IN[0] (in), W17 AD1IN[9]/AD2IN[9] (in), W18 AD2IN[24] (in)
part B pins: A3 N2HET1[29] (io), A4 N2HET1[16]/ePWM1SYNCI/ePWM1SYNCO (io), A9 N2HET1[27] (io), A11 N2HET1[14] (io), A13 N2HET1[17]/EMIF_nOE/SCI4RX (io), A14 N2HET1[26]/MII_RXD[1]/RMII_RXD[1] (io), B3 N2HET1[22]/EMIF_nDQM[3] (io), B4 N2HET1[12]/MIBSPI4NCS[5]/MII_CRS/RMII_CRS_DV (io), B11 N2HET1[30]/MII_RX_DV/eQEP2S (io), B12 N2HET1[4]/MIBSPI4NCS[1]/ePWM4B (io), B13 N2HET1[19]/EMIF_nDQM[0]/SCI4TX (io), D19 N2HET1[10]/MIBSPI4NCS[4]/MII_TX_CLK/nTZ1_3 (io), E3 N2HET1[11]/MIBSPI3NCS[4]/N2HET2[18]/ePWM1SYNCO (io), E18 N2HET1[8]/MIBSPI1SIMO[1]/MII_TXD[3] (io), H4 N2HET1[21]/EMIF_nDQM[2] (io), J1 N2HET1[18]/EMIF_RNW/ePWM6A (io), J4 N2HET1[23]/EMIF_BA[0] (io), J17 N2HET1[31] (io), K18 N2HET1[0]/MIBSPI4CLK/ePWM2B (io), K19 N2HET1[28]/MII_RXCLK/RMII_REFCLK (io), M3 N2HET1[25] (io), N1 N2HET1[15]/MIBSPI1NCS[4]/N2HET2[22]/ECAP1 (io), N2 N2HET1[13]/SCI3TX/N2HET2[20]/ePWM5B (io), P1 N2HET1[24]/MIBSPI1NCS[5]/MII_RXD[0]/RMII_RXD[0] (io), P2 N2HET1[20]/EMIF_nDQM[1]/ePWM6B (io), T1 N2HET1[7]/MIBSPI4NCS[2]/N2HET2[14]/ePWM7B (io), U1 N2HET1[3]/MIBSPI4NCS[0]/N2HET2[10]/eQEP2B (io), V2 N2HET1[1]/MIBSPI4NENA/N2HET2[8]/eQEP2A (io), V6 N2HET1[5]/MIBSPI4SOMI/N2HET2[12]/ePWM3B (io), V7 N2HET1[9]/MIBSPI4NCS[3]/N2HET2[16]/ePWM7A (io), W3 N2HET1[6]/SCI3RX/ePWM5A (io), W5 N2HET1[2]/MIBSPI4SIMO/ePWM3A (io)
part C pins: D6 N2HET2[0] (io), D7 N2HET2[2]/N2HET2_NDIS (io), D8 N2HET2[1]/N2HET1_NDIS (io), D9 ePWM1A (out), D10 ePWM1B (out), D11 N2HET2[6] (io), D12 N2HET2[5] (io), D13 N2HET2[4] (io), E14 ETMDATA[7] (out), E15 ETMDATA[6] (out), F15 ETMDATA[5] (out), G15 ETMDATA[4], H15 ETMDATA[3] (out), J15 ETMDATA[2] (out), K4 N2HET2[15] (io), K16 N2HET2[8] (io), L4 N2HET2[16] (io), L16 N2HET2[9] (io), M4 N2HET2[17] (io), M16 N2HET2[10] (io), N4 N2HET2[18] (io), N16 N2HET2[11] (io), P4 N2HET2[19]/LIN2RX (io), R9 ETMTRACECLKIN/EXTCLKIN2/GIOA[5] (io), R10 ETMTRACECLKOUT/GIOA[6] (io), R11 ETMTRACECTL/GIOA[7] (io), R12 ETMDATA[0] (out), R13 ETMDATA[1] (out), T5 N2HET2[20]/LIN2TX (io), T6 N2HET2[21] (io), T7 N2HET2[22] (io), T8 N2HET2[23] (io)
part D pins: B2 MIBSPI3NCS[2]/I2C1_SDA/N2HET1[27]/nTZ1_2 (io), B6 MIBSPI5NCS[1]/DMM_DATA[6] (io), C3 MIBSPI3NCS[3]/I2C1_SCL/N2HET1[29]/nTZ1_1 (io), D1 N2HET2[14]/MIBSPI2SIMO (io), D2 N2HET2[13]/MIBSPI2SOMI (io), D3 N2HET2[12]/MIBSPI2NENA/MIBSPI2NCS[1] (io), E2 N2HET2[3]/MIBSPI2CLK (io), E4 MII_TXEN (out), E16 MIBSPI5SIMO[1]/DMM_DATA[9]/AD1EXT_SEL[0] (io), E17 MIBSPI5SOMI[1]/DMM_DATA[13]/AD1EXT_SEL[3] (io), E19 MIBSPI5NCS[0]/DMM_DATA[5]/ePWM4A (io), F3 MIBSPI1NCS[1]/MII_COL/N2HET1[17]/eQEP1S (io), F4 MDIO (io), F16 DMM_nENA (io), F17 DMM_CLK (io), F18 MIBSPI1CLK (io), F19 MIBSPI1SIMO[0] (io), G3 MIBSPI1NCS[2]/MDIO/N2HET1[19] (io), G4 MII_TXD[3] (out), G16 MIBSPI5SOMI[3]/DMM_DATA[15]/I2C2_SCL/AD1EXT_ENA (io), G17 MIBSPI5SIMO[3]/DMM_DATA[11]/I2C2_SDA/AD1EXT_SEL[2] (io), G18 MIBSPI1SOMI[0] (io), G19 MIBSPI1NENA/MII_RXD[2]/N2HET1[23]/ECAP4 (io), H16 MIBSPI5SOMI[2]/DMM_DATA[14]/AD1EXT_SEL[4] (io), H17 MIBSPI5SIMO[2]/DMM_DATA[10]/AD1EXT_SEL[1] (io), H18 MIBSPI5NENA/DMM_DATA[7]/MII_RXD[3]/ECAP5 (io), H19 MIBSPI5CLK/DMM_DATA[4]/MII_TXEN/RMII_TXEN (out), J3 MIBSPI1NCS[3]/N2HET1[21]/nTZ1_3 (io), J16 DMM_SYNC (io), J18 MIBSPI5SOMI[0]/DMM_DATA[12]/MII_TXD[0]/RMII_TXD[0] (out), J19 MIBSPI5SIMO[0]/DMM_DATA[8]/MII_TXD[1]/RMII_TXD[1] (out), L18 DMM_DATA1 (io), L19 DMM_DATA[0] (io), N3 N2HET2[7]/MIBSPI2NCS[0] (io), R1 MII_TXD[1] (out), R2 MIBSPI1NCS[0]/MIBSPI1SOMI[1]/MII_TXD[2]/ECAP6 (out), T2 MII_TXD[2] (out), T3 MII_RXD[1] (in), T4 MII_RXCLK (in), T9 MDCLK (out), T12 MIBSPI5NCS[3]/DMM_DATA[3] (io), U3 MII_RXD[2] (in), U4 MII_RXD[0] (in), U5 MII_RX_ER (in), U6 MII_RX_DV (in), U7 MII_TX_CLK (in), U8 MII_TXD[0] (out), U9 MIBSPI1NCS[5] (io), U10 MIBSPI1NCS[4] (io), V3 MII_RXD[3] (in), V4 MII_CRS (in), V5 MIBSPI3NCS[1]/MDCLK/N2HET1[25] (io), V8 MIBSPI3SOMI/AD1EXT_ENA/ECAP2 (io), V9 MIBSPI3CLK/AD1EXT_SEL[1]/eQEP1A (io), V10 MIBSPI3NCS[0]/AD2EVT/eQEP1I (io), W4 MII_COL (in), W6 MIBSPI5NCS[2]/DMM_DATA[2] (io), W8 MIBSPI3SIMO/AD1EXT_SEL[0]/ECAP3 (io), W9 MIBSPI3NENA/MIBSPI3NCS[5]/N2HET1[31]/eQEP1B (io)
part E pins: A12 ECLK1 (io), A16 RTCK (out), A17 TDI (in), B14 nERROR (out), B17 nRST (io), B18 TCK (in), C18 TDO (out), C19 TMS (in), D18 nTRST (in), H5 FLTP2 (in), J5 FLTP1 (in), K1 OSCIN (in), L1 OSCOUT (out), L2 KELVIN-GND (in), U2 TEST (in), W7 nPORRST (in)
part F pins: A1 GND (power), A2 GND (power), A18 GND (power), A19 GND (power), B1 GND (power), B19 GND (power), F6 IO_VCC (power), F7 IO_VCC (power), F8 VCCP (power), F9 CORE_VCC (power), F10 CORE_VCC (power), F11 IO_VCC (power), F12 IO_VCC (power), F13 IO_VCC (power), F14 IO_VCC (power), G6 IO_VCC (power), G14 IO_VCC (power), H6 IO_VCC (power), H8 GND (power), H9 GND (power), H10 CORE_VCC (power), H11 GND (power), H12 GND (power), H14 IO_VCC (power), J6 IO_VCC (power), J8 GND (power), J9 GND (power), J10 GND (power), J11 GND (power), J12 GND (power), J14 CORE_VCC (power), K6 CORE_VCC (power), K8 CORE_VCC (power), K9 GND (power), K10 GND (power), K11 GND (power), K12 CORE_VCC (power), K14 CORE_VCC (power), L6 CORE_VCC (power), L8 GND (power), L9 GND (power), L10 GND (power), L11 GND (power), L12 GND (power), L14 IO_VCC (power), M6 IO_VCC (power), M8 GND (power), M9 GND (power), M10 CORE_VCC (power), M11 GND (power), M12 GND (power), M14 IO_VCC (power), N6 IO_VCC (power), N14 IO_VCC (power), P6 IO_VCC (power), P7 IO_VCC (power), P8 IO_VCC (power), P9 IO_VCC (power), P10 CORE_VCC (power), P11 VCCPLL (power), P12 IO_VCC (power), P13 IO_VCC (power), P14 IO_VCC (power), V1 GND (power), W1 GND (power), W2 GND (power), W15 VCCAD (power), W16 VSSAD (power), W19 VSSAD (power)
part G pins: C4 EMIF_ADDR[6]/RTP_DATA[13]/N2HET2[11] (io), C5 EMIF_ADDR[7]/RTP_DATA[12]/N2HET2[13] (io), C6 EMIF_ADDR[8]/RTP_DATA[11]/N2HET2[15] (io), C7 EMIF_ADDR[9]/RTP_DATA[10] (io), C8 EMIF_ADDR[10]/RTP_DATA[09] (io), C9 EMIF_ADDR[11]/RTP_DATA[08] (io), C10 EMIF_ADDR[12]/RTP_DATA[06] (io), C11 EMIF_ADDR[13]/RTP_DATA[05] (io), C12 EMIF_ADDR[14]/RTP_DATA[04] (io), C13 EMIF_ADDR[15]/RTP_DATA[03] (io), C14 EMIF_ADDR[17]/RTP_DATA[01] (io), C15 EMIF_ADDR[19]/RTP_nENA (io), C16 EMIF_ADDR[20]/RTP_nSYNC (io), C17 EMIF_ADDR[21]/RTP_CLK (io), D4 EMIF_ADDR[0]/N2HET2[1] (io), D5 EMIF_ADDR[1]/N2HET2[3] (io), D14 EMIF_ADDR[16]/RTP_DATA[02] (io), D15 EMIF_ADDR[18]/RTP_DATA[0] (io), D16 EMIF_BA[1]/N2HET2[5] (io), D17 EMIF_nWE/EMIF_RNW (out), E5 ETMDATA[20]/EMIF_DATA[4] (io), E6 ETMDATA[11]/EMIF_ADDR[2] (out), E7 ETMDATA[10]/EMIF_ADDR[3] (out), E8 ETMDATA[9]/EMIF_ADDR[4] (out), E9 ETMDATA[8]/EMIF_ADDR[5] (out), E10 ETMDATA[15]/EMIF_nDQM[0] (out), E11 ETMDATA[14]/EMIF_nDQM[1] (out), E12 ETMDATA[13]/EMIF_nOE (io), E13 ETMDATA[12]/EMIF_BA[0] (io), F5 ETMDATA[21]/EMIF_DATA[5] (io), G5 ETMDATA[22]/EMIF_DATA[6] (io), K3 EMIF_CLK/ECLK2 (io), K5 ETMDATA[23]/EMIF_DATA[7] (io), K15 ETMDATA[16]/EMIF_DATA[0] (io), K17 EMIF_nCS[3]/RTP_DATA[14]/N2HET2[9] (io), L3 EMIF_CKE (out), L5 ETMDATA[24]/EMIF_DATA[8]/N2HET2[24]/MIBSPI5NCS[4] (io), L15 ETMDATA[17]/EMIF_DATA[1] (io), L17 EMIF_nCS[2]/GIOB[4] (io), M5 ETMDATA[25]/EMIF_DATA[9]/N2HET2[25]/MIBSPI5NCS[5] (io), M15 ETMDATA[18]/EMIF_DATA[2] (io), M17 EMIF_nCS[4]/RTP_DATA[7]/GIOB[5] (io), N5 ETMDATA[26]/EMIF_DATA[10]/N2HET2[26] (io), N15 ETMDATA[19]/EMIF_DATA[3] (io), N17 EMIF_nCS[0]/RTP_DATA[15]/N2HET2[7] (io), P3 EMIF_nWAIT/GIOB[7] (io), P5 ETMDATA[27]/EMIF_DATA[11]/N2HET2[27] (io), R3 EMIF_nRAS/GIOB[6] (io), R4 EMIF_nCAS/GIOB[3] (io), R5 ETMDATA[28]/EMIF_DATA[12]/N2HET2[28]/GIOA[0] (io), R6 ETMDATA[29]/EMIF_DATA[13]/N2HET2[29]/GIOA[1] (io), R7 ETMDATA[30]/EMIF_DATA[14]/N2HET2[30]/GIOA[3] (io), R8 ETMDATA[31]/EMIF_DATA[15]/N2HET2[31]/GIOA[4] (io)
part H pins: A5 GIOA[0] (io), A6 GIOA[4] (io), B5 GIOA[5]/EXTCLKIN1/ePWM1A (io), C1 GIOA[2]/N2HET2[0]/eQEP2I (io), C2 GIOA[1] (io), E1 GIOA[3]/N2HET2[2] (io), F1 GIOB[7]/nTZ1_2 (io), G1 GIOB[4] (io), G2 GIOB[5] (io), H3 GIOA[6]/N2HET2[4]/ePWM1B (io), J2 GIOB[6]/nERROR (io), K2 GIOB[1] (io), M1 GIOA[7]/N2HET2[6]/ePWM2A (io), M2 GIOB[0] (io)
part I pins: A7 LIN_RX (io), A8 FRAYRX2 (in), A10 DCAN1TX (io), A15 FRAYRX1 (in), B7 LIN_TX (io), B8 FRAYTX2/GIOB[0] (io), B9 FRAYTXEN2/GIOB[2] (io), B10 DCAN1RX (io), B15 FRAYTX1/GIOA[2] (io), B16 FRAYTXEN1/GIOB[1] (io), F2 GIOB[2]/DCAN4TX (io), H1 DCAN2RX (io), H2 DCAN2TX (io), M18 DCAN3TX (io), M19 DCAN3RX (io), W10 GIOB[3]/DCAN4RX (io)

## IC NCS20082DMR2G MS
designator U?, comment NCS20082DMR2G
IC OPAMP GP 2 CIRCUIT MICRO8; Manufacturer: ON Semiconductor; Power Supply: 1.8V ~ 5.5V; Slev Rate: 0.4V/us; DB Parameter 1: 1.2MHz; DB Parameter 2: 1pA; DB Parameter 3: 500uV; Production Status: Active; Current Input Bias: 5pA; Distributor: Digi-Key; Distributor Part Number: NCS20082DMR2GOSCT-ND; Last Revision Date: 30.07.2021; Temperature Range: -40°C ~ +125°C; Mounting: SMD; ComponentLink1Description: Datasheet; ComponentLink1URL: https://www.onsemi.com/pdf/datasheet/ncs2008-d.pdf; ComponentLink2Description: Distributor; ComponentLink2URL: https://www.digikey.com/en/products/detail/on-semiconductor/NCS20082DMR2G/5848203; ComponentLink3Description: Manufacturer; ComponentLink3URL: https://www.onsemi.com/products/amplifiers-comparators/operational-amplifiers-op-amps/ncs20082; Status: Not Checked; GBW Product: 1.2MHz; Offset Voltage: 500uV; Manufacturer Part Number: NCS20082DMR2G
footprint SOP65P490X110-8N_MSOP8_MS (On Semi Micro8)
part A pins: 1 OUT1 (out), 2 IN1- (in), 3 IN1+ (in), 4 V- (power), 8 V+ (power)
part B pins: 5 IN2+ (in), 6 IN2- (in), 7 OUT2 (out)

## IC NIS4461MT1TXG MS
designator U?, comment NIS4461MT1TXG
Resettable Fuses - PPTC +24 VOLT ELECTRONIC FUSE; Manufacturer: Onsemi; Power Supply: 9V~24V; DB Parameter 2: 4.2A; Production Status: Active; Distributor: Mouser; Distributor Part Number: 863-NIS4461MT1TXG; Last Revision Date: 12.08.2022; Temperature Range: -40°C ~ +125°C; Mounting: SMD; ComponentLink1Description: Datasheet; ComponentLink1URL: https://www.onsemi.com/pdf/datasheet/nis4461-d.pdf; ComponentLink2Description: Distributor; ComponentLink2URL: https://eu.mouser.com/ProductDetail/onsemi/NIS4461MT1TXG?qs=HBWAp0VN4RguQGKW17n5sA%3D%3D; ComponentLink3Description: Manufacturer; ComponentLink3URL: https://www.onsemi.com/products/power-management/protection/current-protection/nis4461; Status: Not Checked; DB Parameter 1: 9V~24V; Manufacturer Part Number: NIS4461MT1TXG
footprint SON50P300X300X80-11N ONSEMI MS
pins: 1 GND (power), 2 DVDT (io), 3 EN/FLT (oc), 4 ILIM, 5 ISENSE, 6 SRC, 7 SRC, 8 SRC, 9 SRC, 10 SRC, 11 PAD(VCC)

## IC PCA9554APW,118 MS
designator U?, comment PCA9554APW,118
IC I/O Expanders 8-BIT I2C FM TP GPIO INT PU; Manufacturer: NXP Semiconductors; Power Supply: 2.3V~5.5V; Production Status: Active; Distributor: Mouser; Distributor Part Number: 771-PCA9554APW-T; Last Revision Date: 12.01.2022; Temperature Range: -40°C ~ +85°C; Mounting: SMD; ComponentLink1Description: Datasheet; ComponentLink1URL: https://www.nxp.com/docs/en/data-sheet/PCA9554_9554A.pdf; ComponentLink2Description: Distributor; ComponentLink2URL: https://eu.mouser.com/ProductDetail/NXP-Semiconductors/PCA9554APW118?qs=sGAEpiMZZMt46bMQRT2SLsRFNdjoEs9o5afdieCUMd4%3D; ComponentLink3Description: Manufacturer; ComponentLink3URL: https://www.nxp.com/part/PCA9554APW#/; Status: Not Checked; DB Parameter 1: PCA9554APW,118; DB Parameter 2: 2.3V~5.5V; Manufacturer Part Number: PCA9554APW,118
footprint SOP65P640X120-16N_PW016A MS
pins: 1 A0 (in), 2 A1 (in), 3 A2 (in), 4 IO0 (io), 5 IO1 (io), 6 IO2 (io), 7 IO3 (io), 8 GND (power), 9 IO4 (io), 10 IO5 (io), 11 IO6 (io), 12 IO7 (io), 13 /INT (oc), 14 SCL (in), 15 SDA, 16 VDD (power)

## IC PCA9554ARGVR MS
designator U?, comment PCA9554ARGVR
IC I/O EXPANDER I2C 8B 16VQFN; Manufacturer: Texas Instruments; Power Supply: 2.3V~5.5V; Production Status: Active; Distributor: Digi-Key; Distributor Part Number: 296-22709-1-ND; Last Revision Date: 08.04.2021; Temperature Range: -40°C ~ +85°C; Mounting: SMD; ComponentLink1Description: Datasheet; ComponentLink1URL: https://www.ti.com/lit/ds/symlink/pca9554a.pdf?HQS=dis-dk-null-digikeymode-dsf-pf-null-wwe&ts=1617875645194; ComponentLink2Description: Distributor; ComponentLink2URL: https://www.digikey.com/en/products/detail/texas-instruments/PCA9554ARGVR/1726503; ComponentLink3Description: Manufacturer; ComponentLink3URL: https://www.ti.com/product/PCA9554A; Status: Not Checked; DB Parameter 1: PCA9554ARGVR; DB Parameter 2: 2.3V~5.5V; Manufacturer Part Number: PCA9554ARGVR
footprint QFN65P400X400X100-17N
pins: 1 A2 (in), 2 P0 (io), 3 P1 (io), 4 P2 (io), 5 P3 (io), 6 GND (power), 7 P4 (io), 8 P5 (io), 9 P6 (io), 10 P7 (io), 11 /INT (oc), 12 SCL, 13 SDA, 14 VCC (power), 15 A0 (in), 16 A1 (in), 17 EPAD

## IC PMR36503MSCQRPETQ1 MS
designator U?, comment LMR36503RS5QRPERQ1
BUCK 3-V TO 65-V, 0.3-A BU; Manufacturer: Texas Instruments; Manufacturer Part Number: LMR36503MSCQRPERQ1; Input Voltage: 3.6V ~ 65V; Output Voltage: ADJ; DB Parameter 2: 0.3A; Production Status: Active; Distributor: Digi-Key; Distributor Part Number: 296-LMR36503MSCQRPERQ1CT-ND; Last Revision Date: 06.04.2021; Temperature Range: -40°C ~ +150°C; Mounting: SMD; ComponentLink1Description: Datasheet; ComponentLink1URL: https://www.ti.com/store/ti/en/p/product/?p=LMR36503MSCQRPERQ1&keyMatch=LMR36503MSCQRPERQ1&tisearch=search-everything&usecase=OPN; ComponentLink2Description: Distributor; ComponentLink2URL: https://www.digikey.com/en/products/detail/texas-instruments/LMR36503MSCQRPERQ1/13280054?s=N4IgTCBcDaIDIFkBKBmAbAVgAwoQZQGEBFJABQFEkiBGEAXQF8g; ComponentLink3Description: Manufacturer; ComponentLink3URL: https://www.ti.com/store/ti/en/p/product/?p=LMR36503RS5QRPERQ1; Status: Not Checked; VFB: N/A; DB Parameter 1: ADJ; Output Current: 0.3A; Isolation: N/A
footprint RPE0009A MS
pins: 1 MODE_SYNC (in), 2 PGOOD (out), 3 EN_UVLO, 4 VIN (power), 5 SW (power), 6 BOOT, 7 VCC (power), 8 FB, 9 GND (power)

## IC S25FL064LABNFI043 MS
designator U?, comment S25FL064LABNFI043
IC FLASH 64MBIT SPI/QUAD 8USON; Manufacturer: Cypress Semiconductor Corp; Power Supply: 2.7V ~ 3.6V; Clock Frequency: 108 MHz; DB Parameter 2: 64Mb; Production Status: Active; Distributor: Digi-Key; Distributor Part Number: 428-4075-1-ND; Last Revision Date: 06.09.2021; Temperature Range: -40°C ~ +85°C; Mounting: SMD; ComponentLink1Description: Datasheet; ComponentLink1URL: https://www.cypress.com/file/316661/download; ComponentLink2Description: Distributor; ComponentLink2URL: https://www.digikey.com/en/products/detail/cypress-semiconductor-corp/S25FL064LABNFI043/7034907; ComponentLink3Description: Manufacturer; ComponentLink3URL: https://www.cypress.com/part/s25fl064labnfi043; Status: Not Checked; DB Parameter 1: S25FL064LABNFI043; DB Parameter 3: 108 MHz; Manufacturer Part Number: S25FL064LABNFI043
footprint SON80P400X400X60-9N MS
pins: 1 CS# (in), 2 SO/IO1 (io), 3 WP#/IO2 (io), 4 VSS (power), 5 SI/IO0 (io), 6 SCK (in), 7 RESET#/IO3 (io), 8 VCC (power), 9 EP (power)

## IC S25FL128SAGNFI003 MS
designator U?, comment S25FL128SAGNFI003
IC FLASH 128M SPI 133MHZ 8WSON; Manufacturer: Cypress Semiconductor Corp; Power Supply: 2.7V ~ 3.6V; DB Parameter 2: 128Mb; Production Status: Active; Distributor: Digi-Key; Distributor Part Number: 428-4003-1-ND; Last Revision Date: 02.11.2020.; Temperature Range: -40°C ~ +85°C; Mounting: SMD; ComponentLink1Description: Datasheet; ComponentLink1URL: https://www.cypress.com/file/448601/download; ComponentLink2Description: Distributor; ComponentLink2URL: https://www.digikey.com/en/products/detail/cypress-semiconductor-corp/S25FL128SAGNFI003/4103887?s=N4IgTCBcDaIMpgKwDEAyBGMAOOBBA4gHLICSADGQMwgC6AvkA; ComponentLink3Description: Manufacturer; ComponentLink3URL: https://www.cypress.com/part/s25fl128sagnfi003; Status: Not Checked; Clock Frequency: 133 MHz; DB Parameter 1: S25FL128SAGNFI003; DB Parameter 3: 133 MHz; Manufacturer Part Number: S25FL128SAGNFI003
footprint SON127P800X265_HS-9N MS (SON, 8-Leads, Body 6.00x8.00mm, Pitch 1.27mm, Thermal Pad 4.80x4.65mm, IPC Medium Density)
pins: 1 /CS, 2 SO/IO1, 3 /WP/IO2, 4 VSS, 5 SI/IO0, 6 SCK, 7 /HOLD/IO3, 8 VCC, 9 EP

## IC SI8662BB-B-IU MS
designator U?, comment SI8662BB
DGTL ISO 2500VRMS 6CH GP 16QSOP; Manufacturer: Skyworks Solutions Inc.; Manufacturer Part Number: SI8662BB-B-IU; Isolation Voltage: 2.5kV; Data Rate: 150Mbps; Production Status: Active; Distributor: Digi-Key; Distributor Part Number: 336-4302-ND; Last Revision Date: 30.07.2021; Temperature Range: -40°C ~ +125°C; Mounting: SMD; ComponentLink1Description: Datasheet; ComponentLink1URL: https://www.skyworksinc.com/-/media/Skyworks/SL/documents/public/data-sheets/Si866x.pdf; ComponentLink2Description: Distributor; ComponentLink2URL: https://www.digikey.com/en/products/detail/silicon-labs/SI8662BB-B-IU/7915656; ComponentLink3Description: Manufacturer; ComponentLink3URL: https://www.skyworksinc.com/en/Products/Isolation/Si86xx-Digital-Isolators/Si8662BB-IU; Status: Not Checked; DB Parameter 1: SI8662BB-B-IU; DB Parameter 2: 150Mbps; DB Parameter 3: 2.5kV
footprint SOP64P600X175-16N MS (16QSOP)
pins: 1 VDD1, 2 I1, 3 I2, 4 I3, 5 I4, 6 O5, 7 O6, 8 GND1, 9 GND2, 10 I6, 11 I5, 12 O4, 13 O3, 14 O2, 15 O1, 16 VDD2

## IC SN74LVC1G08QDRYRQ1 MS
designator U?, comment SN74LVC1G08QDRYRQ1
IC GATE AND 1CH 2-INP 6USON; Manufacturer: Texas Instruments; Power Supply: 1.65V ~ 5.5V; Production Status: Active; Distributor: Mouser; Distributor Part Number: 595-74LVC1G08QDRYRQ1; Last Revision Date: 19.11.2021; Temperature Range: -40°C ~ +125°C; Mounting: SMD; ComponentLink1Description: Datasheet; ComponentLink1URL: https://www.ti.com/lit/ds/symlink/sn74lvc1g08-q1.pdf?ts=1637334759255&ref_url=https%253A%252F%252Fwww.ti.com%252Fstore%252Fti%252Fen%252Fp%252Fproduct%252F%253Fp%253DSN74LVC1G08QDRYRQ1; ComponentLink2Description: Distributor; ComponentLink2URL: https://eu.mouser.com/ProductDetail/Texas-Instruments/SN74LVC1G08QDRYRQ1?qs=%2Fha2pyFaduhBQxXURUOFp92wMWUMWbNGegsNgTONmFgRLnwaoNiy90NLaFjEA6Xa; ComponentLink3Description: Manufacturer; ComponentLink3URL: https://www.ti.com/store/ti/en/p/product/?p=SN74LVC1G08QDRYRQ1; Status: Not Checked; DB Parameter 1: SN74LVC1G08QDRYRQ1; Manufacturer Part Number: SN74LVC1G08QDRYRQ1
footprint DRY6 MS
pins: 1 A (in), 2 B (in), 3 GND (power), 4 Y (hiz), 5 NC, 6 VCC (power)

## IC SN74LVC1G11DRYR MS
designator U?, comment SN74LVC1G11DRYR
IC Logic Gates Sgl 3-Inp Pos-AND Gate; Manufacturer: Texas Instruments; Power Supply: 1.65V ~ 5.5V; Production Status: Active; Distributor: Mouser; Distributor Part Number: 595-SN74LVC1G11DRYR; Last Revision Date: 15.10.2021; Temperature Range: -40°C ~ +125°C; Mounting: SMD; ComponentLink1Description: Datasheet; ComponentLink1URL: https://www.ti.com/lit/ds/symlink/sn74lvc1g11.pdf?HQS=dis-mous-null-mousermode-dsf-pf-null-wwe&ts=1634287114590&ref_url=https%253A%252F%252Fwww.mouser.at%252F; ComponentLink2Description: Distributor; ComponentLink2URL: https://eu.mouser.com/ProductDetail/Texas-Instruments/SN74LVC1G11DRYR?qs=%2Fha2pyFadugoF%252B4lmBlcD5X5qOf9hsxsMpzBcs1disrFbVcWqNUGvvGL16H7%252Bqo7; ComponentLink3Description: Manufacturer; ComponentLink3URL: https://www.ti.com/store/ti/en/p/product/?p=SN74LVC1G11DRYR; Status: Not Checked; DB Parameter 1: SN74LVC1G11DRYR
footprint DRY6 MS
pins: 1 A (in), 2 GND (power), 3 B (in), 4 Y (hiz), 5 VCC (power), 6 C (in)

## IC SN74LVC1G125DBVT MS
designator U?, comment SN74LVC1G125DBVT
IC BUF NON-INVERT 5.5V SOT23-5; Manufacturer: Texas Instruments; Power Supply: 2.7V ~ 5.5V; Production Status: Active; Distributor: Digi-Key; Distributor Part Number: 296-26595-1-ND; Last Revision Date: 21.06.2021; Temperature Range: -40°C ~ +125°C; Mounting: SMD; ComponentLink1Description: Datasheet; ComponentLink1URL: https://www.ti.com/lit/ds/symlink/sn74lvc1g125.pdf?HQS=dis-dk-null-digikeymode-dsf-pf-null-wwe&ts=1624259867968&ref_url=https%253A%252F%252Fwww.ti.com%252Fgeneral%252Fdocs%252Fsuppproductinfo.tsp%253FdistId%253D10%2526gotoUrl%253Dhttps%253A%252F%252Fwww.ti.com%252Flit%252Fgpn%252Fsn74lvc1g125; ComponentLink2Description: Distributor; ComponentLink2URL: https://www.digikey.com/en/products/detail/texas-instruments/SN74LVC1G125DBVT/1591993?s=N4IgTCBcDaIMoDkDsAWAMgNQMIEYDiOYArACIBCGAKiALoC%2BQA; ComponentLink3Description: Manufacturer; ComponentLink3URL: https://www.ti.com/store/ti/en/p/product/?p=SN74LVC1G125DBVT&keyMatch=SN74LVC1G125DBVT&tisearch=search-everything&usecase=OPN; Status: Not Checked; DB Parameter 1: SN74LVC1G125DBVT
footprint DBV0005A_L
pins: 1 ~{OE} (in), 2 A (in), 3 GND (power), 4 Y (hiz), 5 VCC (power)

## IC SN74LVC1G125DCKT MS
designator U?, comment SN74LVC1G125DCKT
IC BUF NON-INVERT 5.5V SC70-5; Manufacturer: Texas Instruments; Power Supply: 1.65V ~ 5.5V; Production Status: Active; Distributor: Digi-Key; Distributor Part Number: 296-26596-1-ND; Last Revision Date: 30.07.2021; Temperature Range: -40°C ~ +125°C; Mounting: SMD; ComponentLink1Description: Datasheet; ComponentLink1URL: https://www.digikey.com/en/products/detail/texas-instruments/SN74LVC1G125DCKT/1591994; ComponentLink2Description: Distributor; ComponentLink2URL: https://www.digikey.com/en/products/detail/texas-instruments/SN74LVC1G125DCKT/1591994; ComponentLink3Description: Manufacturer; ComponentLink3URL: https://www.ti.com/store/ti/en/p/product/?p=SN74LVC1G125DCKT; Status: Not Checked; DB Parameter 1: SN74LVC1G125DCKT
footprint DCK5 MS
pins: 1 ~{OE} (in), 2 A (in), 3 GND (power), 4 Y (hiz), 5 VCC (power)

## IC ST3232CTR MS
designator U?, comment ST3232CTR
IC TRANSCEIVER RS232 FULL 2/2 16TSSOP; Manufacturer: STMicroelectronics; Power Supply: 3V~5.5V; DB Parameter 1: TPS2410PW; DB Parameter 3: 400kbps; Production Status: Active; Distributor: Digi-Key; Distributor Part Number: 497-6535-1-ND; Last Revision Date: 09.06.2021; Temperature Range: 0°C ~ +70°C; Mounting: SMD; ComponentLink1Description: Datasheet; ComponentLink1URL: https://www.st.com/resource/en/datasheet/st3232c.pdf; ComponentLink2Description: Distributor; ComponentLink2URL: https://www.digikey.com/en/products/detail/stmicroelectronics/ST3232CTR/1039248?s=N4IgTCBcDaIMoBUDMYUGEECUQF0C%2BQA; ComponentLink3Description: Manufacturer; ComponentLink3URL: https://www.st.com/en/interfaces-and-transceivers/st3232c.html; Status: Not Checked; DB Parameter 2: 3V~5.5V; Manufacturer Part Number: ST3232CTR
footprint TSSOP16_STM MS
pins: 1 C1+, 2 V+, 3 C1-, 4 C2+, 5 C2-, 6 V-, 7 T2OUT (out), 8 R2IN (in), 9 R2OUT (out), 10 T2IN (in), 11 T1IN (in), 12 R1OUT (out), 13 R1IN (in), 14 T1OUT (out), 15 GND (power), 16 VCC (power)
text: T1; TTL; RS232; T2; R1; R2

## IC TCAN337GDCNR MS
designator U?, comment TCAN337GDCNR
CAN Interface IC 3.3-V CAN Transceivers with CAN FD SOT 23-8; Manufacturer: Texas Instruments; Power Supply: 3.0V ~3.6V; Production Status: Active; Distributor: Mouser; Distributor Part Number: 595-TCAN337GDCNR; Last Revision Date: 31.01.2022; Temperature Range: -40°C ~ +125°C; Mounting: SMD; ComponentLink1Description: Datasheet; ComponentLink1URL: https://www.ti.com/lit/ds/symlink/tcan337g.pdf?HQS=dis-mous-null-mousermode-dsf-pf-null-wwe&ts=1643621904746&ref_url=https%253A%252F%252Fru.mouser.com%252F; ComponentLink2Description: Distributor; ComponentLink2URL: https://eu.mouser.com/ProductDetail/Texas-Instruments/TCAN337GDCNR?qs=sGAEpiMZZMsyYdr3R27aV8OesWHw5m0o10FTgWlxXWw%3D; ComponentLink3Description: Manufacturer; ComponentLink3URL: https://www.ti.com/store/ti/en/p/product/?p=TCAN337GDCNR; Status: Not Checked; DB Parameter 1: TCAN337GDCNR; Manufacturer Part Number: TCAN337GDCNR
footprint SOT65P280X110-8N
pins: 1 TXD, 2 GND, 3 VCC, 4 RXD, 5 FAULT, 6 CANL, 7 CANH, 8 S

## IC TL431LIAQDBZR MS
designator U?, comment TL431LIAQDBZR
IC VREF SHUNT ADJ 1% SOT23-3; Manufacturer: Texas Instruments; Output Voltage: 2.495V; Production Status: Active; Distributor: Digi-Key; Distributor Part Number: 296-53240-1-ND; Last Revision Date: 17.06.2021; Temperature Range: -40°C ~ +85°C; Mounting: SMD; ComponentLink1Description: Datasheet; ComponentLink1URL: https://www.ti.com/lit/ds/symlink/tl431li.pdf?HQS=dis-dk-null-digikeymode-dsf-pf-null-wwe&ts=1623920592896&ref_url=https%253A%252F%252Fwww.digikey.pl%252F; ComponentLink2Description: Distributor; ComponentLink2URL: https://www.digikey.com/en/products/detail/texas-instruments/TL431LIAQDBZR/9861500; ComponentLink3Description: Manufacturer; ComponentLink3URL: https://www.ti.com/store/ti/en/p/product/?p=TL431LIAQDBZR; Status: Not Checked; Tolerance: ±1%; DB Parameter 1: 2.495V; Manufacturer Part Number: TL431LIAQDBZR
footprint SOT-23 TI DBZ MS (SOT-23)
pins: 1 C, 2 REF (in), 3 A

## IC TLV9002IDDFR MS
designator U?, comment TLV9002IDDFR
IC CMOS 2 CIRCUIT SOT23-8; Manufacturer: Texas Instruments; Power Supply: Dual -1.8V ~ 5.5V, ±0.9V ~ 2.75V; Slev Rate: 2V/us; DB Parameter 1: 1MHz; DB Parameter 2: 5pA; DB Parameter 3: 400uA; Production Status: Active; Distributor: Digi-Key; Distributor Part Number: 296-TLV9002IDDFRCT-ND; Last Revision Date: 17.06.2021; Temperature Range: -40°C ~ +125°C; Mounting: SMD; ComponentLink1Description: Datasheet; ComponentLink1URL: https://www.ti.com/general/docs/suppproductinfo.tsp?distId=10&gotoUrl=https%3A%2F%2Fwww.ti.com%2Flit%2Fgpn%2FTLV9002; ComponentLink2Description: Distributor; ComponentLink2URL: https://www.digikey.com/en/products/detail/texas-instruments/TLV9002IDDFR/10715502; ComponentLink3Description: Manufacturer; ComponentLink3URL: https://www.ti.com/product/TLV9001?keyMatch=TLV9001&tisearch=search-everything&usecase=GPN; Status: Not Checked; GBW Product: 1MHz; Current Input Bias: 5pA; Offset Voltage: 400uA; Manufacturer Part Number: TLV9002IDDFR
footprint SOT65P280X110-8N
part A pins: 1 OUT1 (out), 2 IN1- (in), 3 IN1+ (in), 4 V- (power), 8 V+ (power)
part B pins: 5 IN2+ (in), 6 IN2- (in), 7 OUT2 (out)

## IC TLV9002SIDGSR MS
designator U?, comment TLV9002SIDGSR
IC OPAMP GP 2 CIRCUIT 10VSSOP; Manufacturer: Texas Instruments; Power Supply: Dual -1.8V ~ 5.5V, ±0.9V ~ 2.75V; Slev Rate: 2V/us; DB Parameter 1: 1MHz; DB Parameter 2: 5pA; DB Parameter 3: 400uA; Production Status: Active; Distributor: Digi-Key; Distributor Part Number: 296-53198-1-ND; Last Revision Date: 17.06.2021; Temperature Range: -40°C ~ +125°C; Mounting: SMD; ComponentLink1Description: Datasheet; ComponentLink1URL: https://www.ti.com/general/docs/suppproductinfo.tsp?distId=10&gotoUrl=https%3A%2F%2Fwww.ti.com%2Flit%2Fgpn%2FTLV9002; ComponentLink2Description: Distributor; ComponentLink2URL: https://www.digikey.com/en/products/detail/texas-instruments/TLV9002SIDGSR/9861460; ComponentLink3Description: Manufacturer; ComponentLink3URL: https://www.ti.com/product/TLV9001?keyMatch=TLV9001&tisearch=search-everything&usecase=GPN; Status: Not Checked; GBW Product: 1MHz; Current Input Bias: 5pA; Offset Voltage: 400uA; Manufacturer Part Number: TLV9002SIDGSR
footprint SOP50P490X110-10N MS
part A pins: 1 OUT1 (out), 2 IN1- (in), 3 IN1+ (in), 4 V- (power), 5 ~{SHDN1} (power), 10 V+ (power)
part B pins: 6 ~{SHDN2} (in), 7 IN2+ (in), 8 IN2- (in), 9 OUT2 (out)

## IC TPS2410PWR MS
designator U?, comment TPS2410PW
IC OR CTRLR N+1 14TSSOP; Manufacturer: Texas Instruments; Power Supply: 3V~16.5V; Production Status: Active; Distributor: Digi-Key; Distributor Part Number: 296-21612-5-ND; Last Revision Date: 02.04.2021; Temperature Range: -40°C ~ +85°C; Mounting: SMD; ComponentLink1Description: Datasheet; ComponentLink1URL: https://www.ti.com/lit/ds/symlink/tps2410.pdf?HQS=dis-dk-null-digikeymode-dsf-pf-null-wwe&ts=1617366329165; ComponentLink2Description: Distributor; ComponentLink2URL: https://www.digikey.com/en/products/detail/texas-instruments/TPS2410PW/1494005; ComponentLink3Description: Manufacturer; ComponentLink3URL: https://www.ti.com/product/TPS2410; Status: Not Checked; DB Parameter 1: TPS2410PW; DB Parameter 2: 3V~16.5V
footprint SOP65P640X120-14N MS
pins: 1 VDD, 2 RSET, 3 STAT, 4 FLTB, 5 OV, 6 UV, 7 GND, 8 GATE, 9 RSVD, 10 C, 11 A, 12 FLTR, 13 BYP, 14 PG (oc)

## IC TPS2410RMSR MS
designator U?, comment TPS2410RMSR
IC OR CTRLR N+1 UQFN; Manufacturer: Texas Instruments; Power Supply: 3V~16.5V; Production Status: Active; Distributor: Mouser; Distributor Part Number: 595-TPS2410RMSR; Last Revision Date: 26.07.2021; Temperature Range: -40°C ~ +85°C; Mounting: SMD; ComponentLink1Description: Datasheet; ComponentLink1URL: https://www.ti.com/lit/ds/symlink/tps2410.pdf?ts=1627292155251&ref_url=https%253A%252F%252Fwww.ti.com%252Fproduct%252FTPS2410; ComponentLink2Description: Distributor; ComponentLink2URL: https://eu.mouser.com/ProductDetail/Texas-Instruments/TPS2410RMSR?qs=d0WKAl%252BL4KZPBEcdojYg8Q%3D%3D; ComponentLink3Description: Manufacturer; ComponentLink3URL: https://www.ti.com/product/TPS2410?keyMatch=TPS2410&tisearch=search-everything; Status: Not Checked; DB Parameter 1: TPS2410RMSR; DB Parameter 2: 3V~16.5V; Manufacturer Part Number: TPS2410RMSR
footprint QFN50P250X250X60-14N
pins: 1 BYP, 2 PG (oc), 3 VDD, 4 RSET, 5 STAT, 6 FLTB, 7 OV, 8 UV, 9 GND, 10 GATE, 11 RSVD, 12 C, 13 A, 14 FLTR

## IC TPS3808G09DBVR MS
designator U?, comment TPS3808G09DBVR
IC SUPERVISOR 1 CHANNEL SOT23-6; Manufacturer: Texas Instruments; Power Supply: 1.7V ~ 6.5V; Production Status: Active; Distributor: Digi-Key; Distributor Part Number: 296-17189-1-ND; Last Revision Date: 12.07.2021; Temperature Range: -40°C ~ +125°C; Mounting: SMD; ComponentLink1Description: Datasheet; ComponentLink1URL: https://www.ti.com/lit/ds/symlink/tps3808.pdf?HQS=dis-dk-null-digikeymode-dsf-pf-null-wwe&ts=1626094305665&ref_url=https%253A%252F%252Fwww.ti.com%252Fgeneral%252Fdocs%252Fsuppproductinfo.tsp%253FdistId%253D10%2526gotoUrl%253Dhttps%253A%252F%252Fwww.ti.com%252Flit%252Fgpn%252Ftps3808; ComponentLink2Description: Distributor; ComponentLink2URL: https://www.digikey.com/en/products/detail/texas-instruments/TPS3808G09DBVR/666715; ComponentLink3Description: Manufacturer; ComponentLink3URL: https://www.ti.com/store/ti/en/p/product/?p=TPS3808G09DBVR&keyMatch=TPS3808G09DBVR&tisearch=search-everything; Status: Not Checked; DB Parameter 1: TPS3808G09DBVR; Manufacturer Part Number: TPS3808G09DBVR
footprint SOT95P280X145-6N
pins: 1 ~{RESET}, 2 GND, 3 ~{MR}, 4 CT, 5 SENSE, 6 VDD

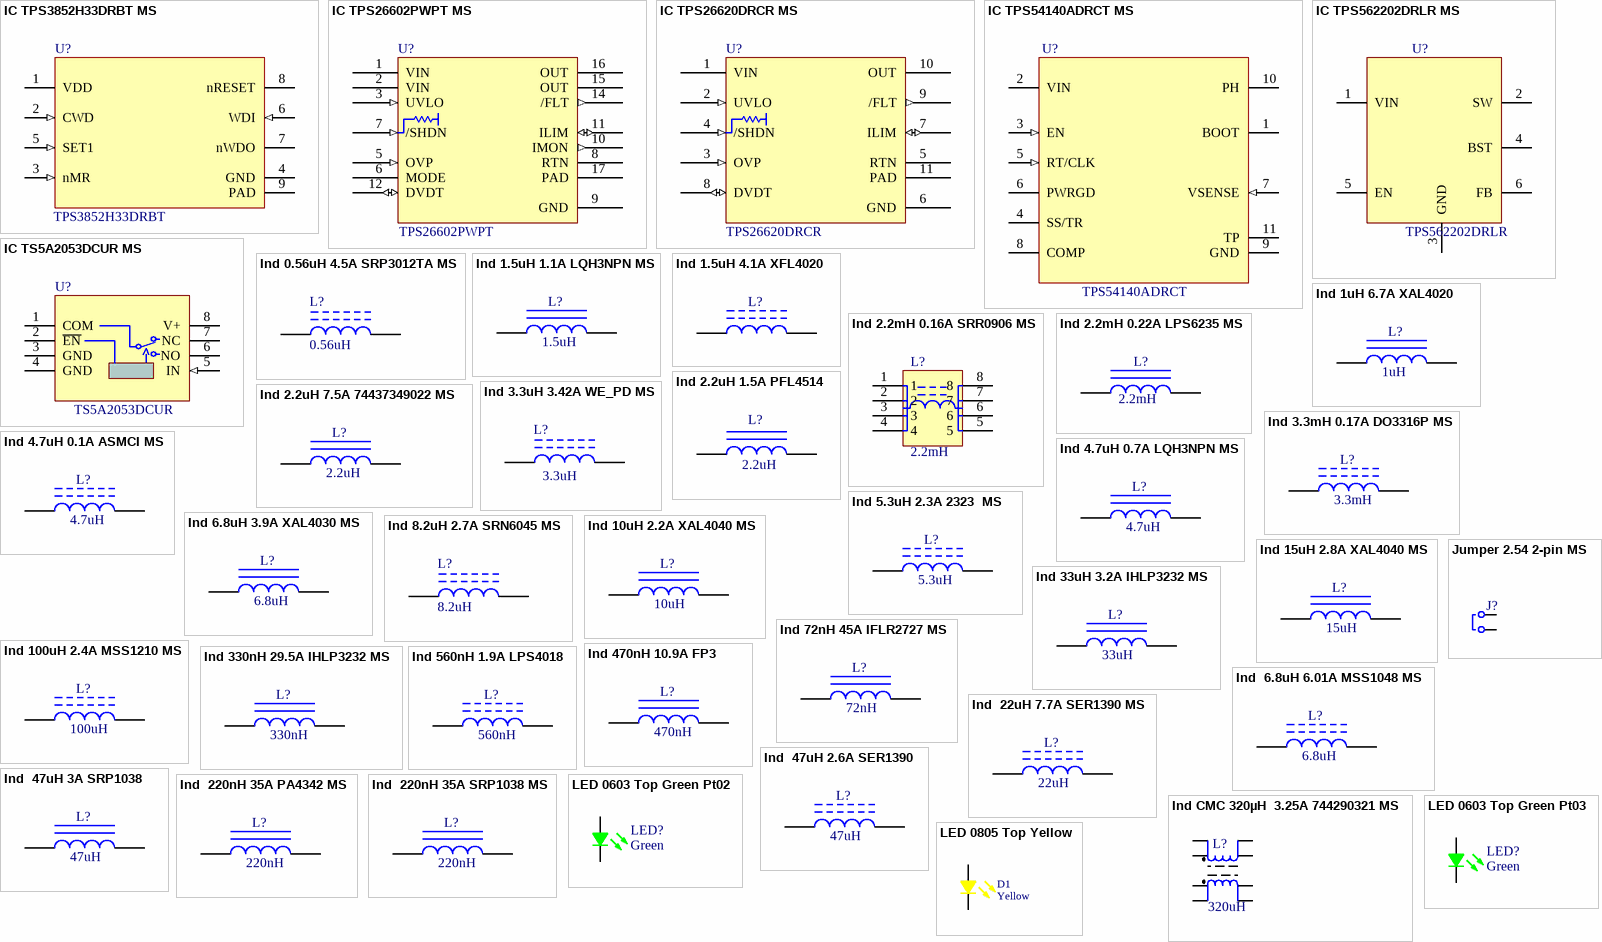
[diagram p18: symbols IC TPS3852H33DRBT MS to LED 0805 Top Yellow]

## IC TPS3852H33DRBT MS
designator U?, comment TPS3852H33DRBT
IC SUPERVISOR 1 CHANNEL 8SON; Manufacturer: Texas Instruments; Power Supply: 1.6V ~ 6.5V; Production Status: Active; Distributor: Digi-Key; Distributor Part Number: 296-45241-1-ND; Last Revision Date: 07.09.2021; Temperature Range: -40°C ~ +125°C; Mounting: SMD; ComponentLink1Description: Datasheet; ComponentLink1URL: https://www.ti.com/lit/ds/symlink/tps3852.pdf?HQS=dis-dk-null-digikeymode-dsf-pf-null-wwe&ts=1631022829923&ref_url=https%253A%252F%252Fwww.ti.com%252Fgeneral%252Fdocs%252Fsuppproductinfo.tsp%253FdistId%253D10%2526gotoUrl%253Dhttps%253A%252F%252Fwww.ti.com%252Flit%252Fgpn%252Ftps3852; ComponentLink2Description: Distributor; ComponentLink2URL: https://www.digikey.sg/product-detail/en/texas-instruments/TPS3852H33DRBT/296-45241-1-ND/6590720; ComponentLink3Description: Manufacturer; ComponentLink3URL: https://www.ti.com/store/ti/en/p/product/?p=TPS3852H33DRBT; Status: Not Checked; DB Parameter 1: TPS3852H33DRBT; Manufacturer Part Number: TPS3852H33DRBT
footprint 8-VDFN_DRB0008A MS
pins: 1 VDD (power), 2 CWD (in), 3 nMR (in), 4 GND (power), 5 SET1 (in), 6 WDI (in), 7 nWDO (oc), 8 nRESET (oc), 9 PAD (power)

## IC TPS26602PWPT MS
designator U?, comment TPS26602PWPT
Hot Swap Voltage Controllers 60V, 2A Industrial eFuse; Manufacturer: Texas Instruments; Power Supply: 4.2V~55V; Production Status: Active; Distributor: Mouser; Distributor Part Number: 595-TPS26602PWPT; Last Revision Date: 09.03.2022; Temperature Range: -40°C ~ +125°C; Mounting: SMD; ComponentLink1Description: Datasheet; ComponentLink1URL: https://www.ti.com/lit/ds/symlink/tps2660.pdf?HQS=dis-dk-null-digikeymode-dsf-pf-null-wwe&ts=1646819032308&ref_url=https%253A%252F%252Fwww.ti.com%252Fgeneral%252Fdocs%252Fsuppproductinfo.tsp%253FdistId%253D10%2526gotoUrl%253Dhttps%253A%252F%252Fwww.ti.com%252Flit%252Fgpn%252Ftps2660; ComponentLink2Description: Distributor; ComponentLink2URL: https://eu.mouser.com/ProductDetail/Texas-Instruments/TPS26602PWPT?qs=Bho%2FbeBaDEzzsdPDXoExxQ%3D%3D; ComponentLink3Description: Manufacturer; ComponentLink3URL: https://www.ti.com/lit/ds/symlink/tps2660.pdf?HQS=dis-dk-null-digikeymode-dsf-pf-null-wwe&ts=1646819032308&ref_url=https%253A%252F%252Fwww.ti.com%252Fgeneral%252Fdocs%252Fsuppproductinfo.tsp%253FdistId%253D10%2526gotoUrl%253Dhttps%253A%252F%252Fwww.ti.com%252Flit%252Fgpn%252Ftps2660; Status: Not Checked; DB Parameter 1: 4.2V~55V; DB Parameter 2: 2A; Rated Current: 2A
footprint SOP65P640X120-17N MS
pins: 1 VIN (power), 2 VIN (power), 3 UVLO (in), 5 OVP (in), 6 MODE, 7 /SHDN (in), 8 RTN, 9 GND (power), 10 IMON (out), 11 ILIM (io), 12 DVDT (io), 14 /FLT (out), 15 OUT (power), 16 OUT (power), 17 PAD